# Altium schematic symbol library MCU_ST_STM32G4.SchLib: 165 symbols (part 1 of 4)
Pins are listed as number, name and electrical type; pins without a type are passive.

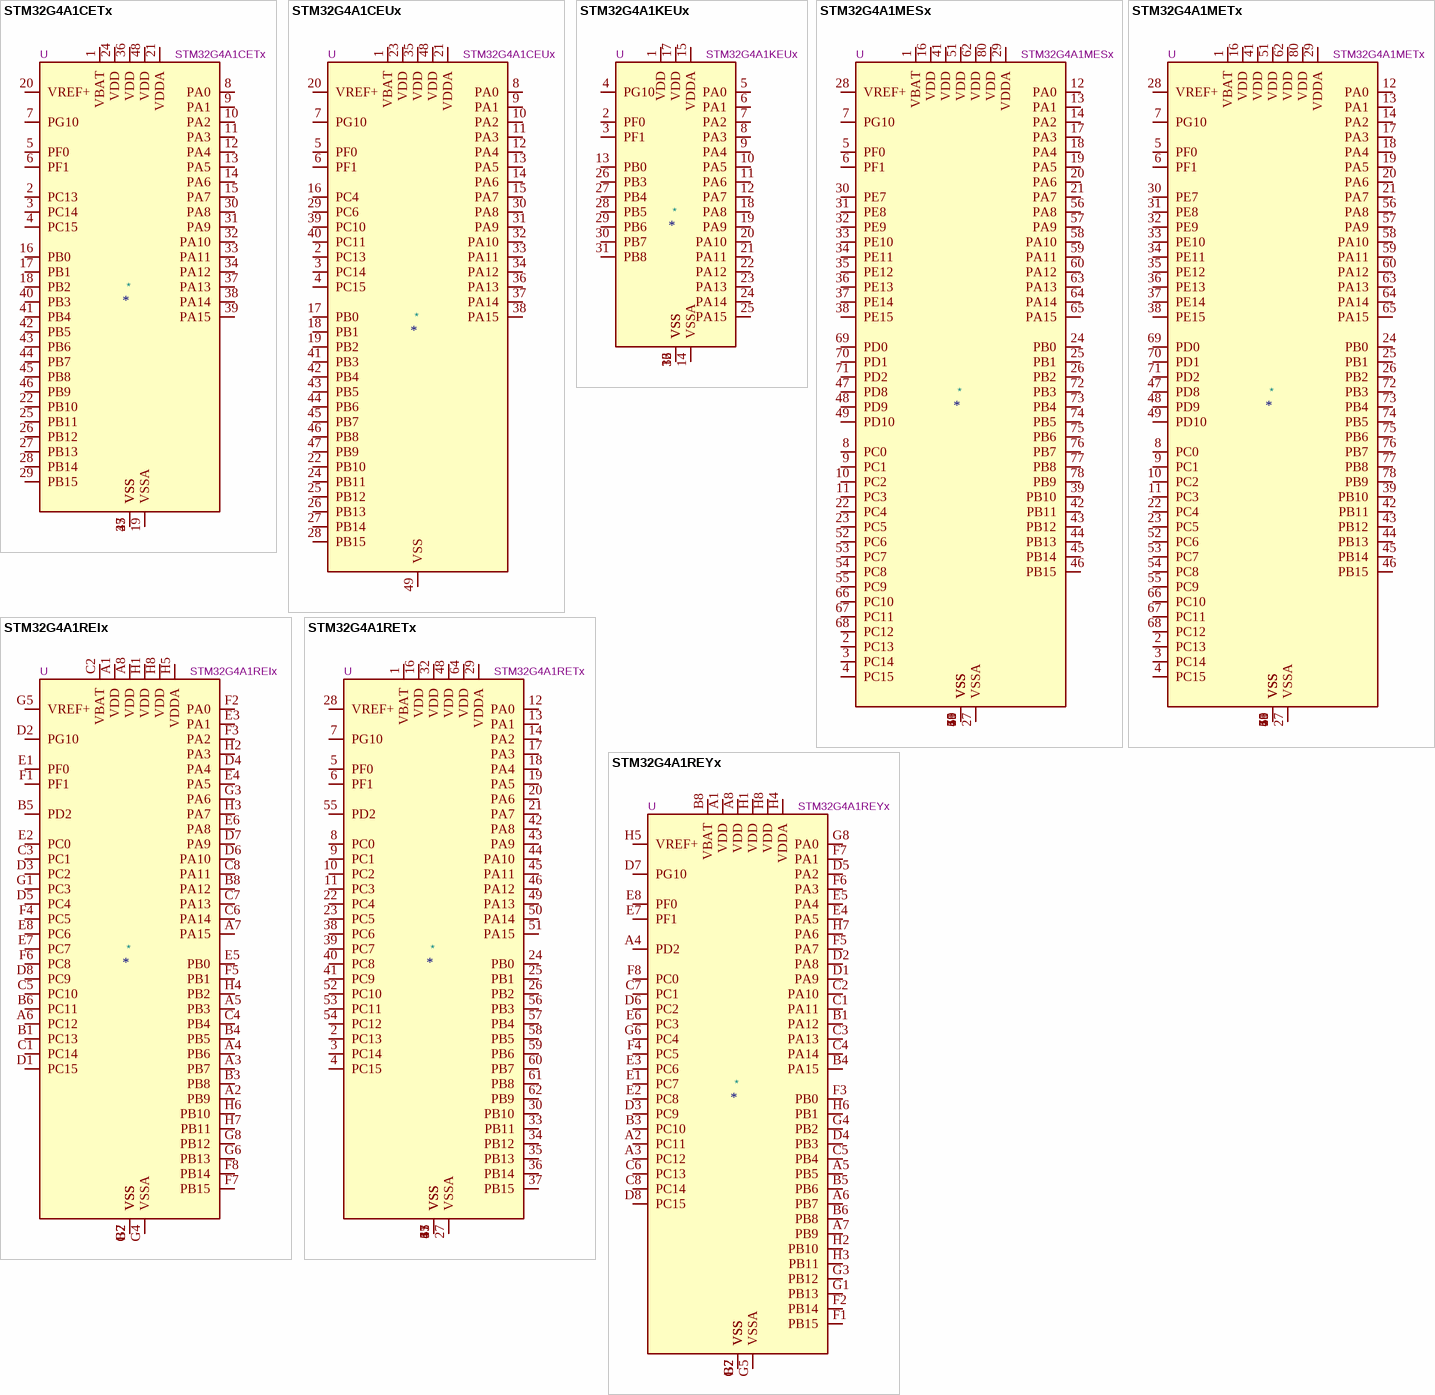
[diagram p0: symbols STM32G4A1CETx to STM32G4A1REYx]

## STM32G4A1CETx
designator *  value STM32G4A1CETx  Reference: U
STMicroelectronics Arm Cortex-M4 MCU, 512KB flash, 112KB RAM, 170 MHz, 1.71-3.6V, 38 GPIO, LQFP48; ki_keywords: Arm Cortex-M4 STM32G4 STM32G4x1; ki_fp_filters: LQFP*7x7mm*P0.5mm*; Footprint: Package_QFP:LQFP-48_7x7mm_P0.5mm; Datasheet: https://www.st.com/resource/en/datasheet/stm32g4a1ce.pdf; Description_: STMicroelectronics Arm Cortex-M4 MCU, 512KB flash, 112KB RAM, 170 MHz, 1.71-3.6V, 38 GPIO, LQFP48
pins: 1 VBAT, 2 PC13, 3 PC14, 4 PC15, 5 PF0, 6 PF1, 7 PG10, 8 PA0, 9 PA1, 10 PA2, 11 PA3, 12 PA4, 13 PA5, 14 PA6, 15 PA7, 16 PB0, 17 PB1, 18 PB2, 19 VSSA, 20 VREF+, 21 VDDA, 22 PB10, 23 VSS, 24 VDD, 25 PB11, 26 PB12, 27 PB13, 28 PB14, 29 PB15, 30 PA8, 31 PA9, 32 PA10, 33 PA11, 34 PA12, 35 VSS, 36 VDD, 37 PA13, 38 PA14, 39 PA15, 40 PB3, 41 PB4, 42 PB5, 43 PB6, 44 PB7, 45 PB8, 46 PB9, 47 VSS, 48 VDD

## STM32G4A1CEUx
designator *  value STM32G4A1CEUx  Reference: U
STMicroelectronics Arm Cortex-M4 MCU, 512KB flash, 112KB RAM, 170 MHz, 1.71-3.6V, 42 GPIO, UFQFPN48; ki_keywords: Arm Cortex-M4 STM32G4 STM32G4x1; ki_fp_filters: QFN*1EP*7x7mm*P0.5mm*; Footprint: Package_DFN_QFN:QFN-48-1EP_7x7mm_P0.5mm_EP5.6x5.6mm; Datasheet: https://www.st.com/resource/en/datasheet/stm32g4a1ce.pdf; Description_: STMicroelectronics Arm Cortex-M4 MCU, 512KB flash, 112KB RAM, 170 MHz, 1.71-3.6V, 42 GPIO, UFQFPN48
pins: 1 VBAT, 2 PC13, 3 PC14, 4 PC15, 5 PF0, 6 PF1, 7 PG10, 8 PA0, 9 PA1, 10 PA2, 11 PA3, 12 PA4, 13 PA5, 14 PA6, 15 PA7, 16 PC4, 17 PB0, 18 PB1, 19 PB2, 20 VREF+, 21 VDDA, 22 PB10, 23 VDD, 24 PB11, 25 PB12, 26 PB13, 27 PB14, 28 PB15, 29 PC6, 30 PA8, 31 PA9, 32 PA10, 33 PA11, 34 PA12, 35 VDD, 36 PA13, 37 PA14, 38 PA15, 39 PC10, 40 PC11, 41 PB3, 42 PB4, 43 PB5, 44 PB6, 45 PB7, 46 PB8, 47 PB9, 48 VDD, 49 VSS

## STM32G4A1KEUx
designator *  value STM32G4A1KEUx  Reference: U
STMicroelectronics Arm Cortex-M4 MCU, 512KB flash, 112KB RAM, 170 MHz, 1.71-3.6V, 26 GPIO, UFQFPN32; ki_keywords: Arm Cortex-M4 STM32G4 STM32G4x1; ki_fp_filters: QFN*1EP*5x5mm*P0.5mm*; Footprint: Package_DFN_QFN:QFN-32-1EP_5x5mm_P0.5mm_EP3.45x3.45mm; Datasheet: https://www.st.com/resource/en/datasheet/stm32g4a1ke.pdf; Description_: STMicroelectronics Arm Cortex-M4 MCU, 512KB flash, 112KB RAM, 170 MHz, 1.71-3.6V, 26 GPIO, UFQFPN32
pins: 1 VDD, 2 PF0, 3 PF1, 4 PG10, 5 PA0, 6 PA1, 7 PA2, 8 PA3, 9 PA4, 10 PA5, 11 PA6, 12 PA7, 13 PB0, 14 VSSA, 15 VDDA, 16 VSS, 17 VDD, 18 PA8, 19 PA9, 20 PA10, 21 PA11, 22 PA12, 23 PA13, 24 PA14, 25 PA15, 26 PB3, 27 PB4, 28 PB5, 29 PB6, 30 PB7, 31 PB8, 32 VSS, 33 VSS

## STM32G4A1MESx
designator *  value STM32G4A1MESx  Reference: U
STMicroelectronics Arm Cortex-M4 MCU, 512KB flash, 112KB RAM, 170 MHz, 1.71-3.6V, 66 GPIO, LQFP80; ki_keywords: Arm Cortex-M4 STM32G4 STM32G4x1; ki_fp_filters: LQFP*14x14mm*P0.65mm*; Footprint: Package_QFP:LQFP-80_14x14mm_P0.65mm; Datasheet: https://www.st.com/resource/en/datasheet/stm32g4a1me.pdf; Description_: STMicroelectronics Arm Cortex-M4 MCU, 512KB flash, 112KB RAM, 170 MHz, 1.71-3.6V, 66 GPIO, LQFP80
pins: 1 VBAT, 2 PC13, 3 PC14, 4 PC15, 5 PF0, 6 PF1, 7 PG10, 8 PC0, 9 PC1, 10 PC2, 11 PC3, 12 PA0, 13 PA1, 14 PA2, 15 VSS, 16 VDD, 17 PA3, 18 PA4, 19 PA5, 20 PA6, 21 PA7, 22 PC4, 23 PC5, 24 PB0, 25 PB1, 26 PB2, 27 VSSA, 28 VREF+, 29 VDDA, 30 PE7, 31 PE8, 32 PE9, 33 PE10, 34 PE11, 35 PE12, 36 PE13, 37 PE14, 38 PE15, 39 PB10, 40 VSS, 41 VDD, 42 PB11, 43 PB12, 44 PB13, 45 PB14, 46 PB15, 47 PD8, 48 PD9, 49 PD10, 50 VSS, 51 VDD, 52 PC6, 53 PC7, 54 PC8, 55 PC9, 56 PA8, 57 PA9, 58 PA10, 59 PA11, 60 PA12, 61 VSS, 62 VDD, 63 PA13, 64 PA14, 65 PA15, 66 PC10, 67 PC11, 68 PC12, 69 PD0, 70 PD1, 71 PD2, 72 PB3, 73 PB4, 74 PB5, 75 PB6, 76 PB7, 77 PB8, 78 PB9, 79 VSS, 80 VDD

## STM32G4A1METx
designator *  value STM32G4A1METx  Reference: U
STMicroelectronics Arm Cortex-M4 MCU, 512KB flash, 112KB RAM, 170 MHz, 1.71-3.6V, 66 GPIO, LQFP80; ki_keywords: Arm Cortex-M4 STM32G4 STM32G4x1; ki_fp_filters: LQFP*12x12mm*P0.5mm*; Footprint: Package_QFP:LQFP-80_12x12mm_P0.5mm; Datasheet: https://www.st.com/resource/en/datasheet/stm32g4a1me.pdf; Description_: STMicroelectronics Arm Cortex-M4 MCU, 512KB flash, 112KB RAM, 170 MHz, 1.71-3.6V, 66 GPIO, LQFP80
pins: 1 VBAT, 2 PC13, 3 PC14, 4 PC15, 5 PF0, 6 PF1, 7 PG10, 8 PC0, 9 PC1, 10 PC2, 11 PC3, 12 PA0, 13 PA1, 14 PA2, 15 VSS, 16 VDD, 17 PA3, 18 PA4, 19 PA5, 20 PA6, 21 PA7, 22 PC4, 23 PC5, 24 PB0, 25 PB1, 26 PB2, 27 VSSA, 28 VREF+, 29 VDDA, 30 PE7, 31 PE8, 32 PE9, 33 PE10, 34 PE11, 35 PE12, 36 PE13, 37 PE14, 38 PE15, 39 PB10, 40 VSS, 41 VDD, 42 PB11, 43 PB12, 44 PB13, 45 PB14, 46 PB15, 47 PD8, 48 PD9, 49 PD10, 50 VSS, 51 VDD, 52 PC6, 53 PC7, 54 PC8, 55 PC9, 56 PA8, 57 PA9, 58 PA10, 59 PA11, 60 PA12, 61 VSS, 62 VDD, 63 PA13, 64 PA14, 65 PA15, 66 PC10, 67 PC11, 68 PC12, 69 PD0, 70 PD1, 71 PD2, 72 PB3, 73 PB4, 74 PB5, 75 PB6, 76 PB7, 77 PB8, 78 PB9, 79 VSS, 80 VDD

## STM32G4A1REIx
designator *  value STM32G4A1REIx  Reference: U
STMicroelectronics Arm Cortex-M4 MCU, 512KB flash, 112KB RAM, 170 MHz, 1.71-3.6V, 52 GPIO, UFBGA64; ki_keywords: Arm Cortex-M4 STM32G4 STM32G4x1; ki_fp_filters: UFBGA*5x5mm*Layout8x8*P0.5mm*; Footprint: Package_BGA:UFBGA-64_5x5mm_Layout8x8_P0.5mm; Datasheet: https://www.st.com/resource/en/datasheet/stm32g4a1re.pdf; Description_: STMicroelectronics Arm Cortex-M4 MCU, 512KB flash, 112KB RAM, 170 MHz, 1.71-3.6V, 52 GPIO, UFBGA64
pins: A1 VDD, A2 PB9, A3 PB7, A4 PB6, A5 PB3, A6 PC12, A7 PA15, A8 VDD, B1 PC13, B2 VSS, B3 PB8, B4 PB5, B5 PD2, B6 PC11, B7 VSS, B8 PA12, C1 PC14, C2 VBAT, C3 PC1, C4 PB4, C5 PC10, C6 PA14, C7 PA13, C8 PA11, D1 PC15, D2 PG10, D3 PC2, D4 PA4, D5 PC4, D6 PA10, D7 PA9, D8 PC9, E1 PF0, E2 PC0, E3 PA1, E4 PA5, E5 PB0, E6 PA8, E7 PC7, E8 PC6, F1 PF1, F2 PA0, F3 PA2, F4 PC5, F5 PB1, F6 PC8, F7 PB15, F8 PB14, G1 PC3, G2 VSS, G3 PA6, G4 VSSA, G5 VREF+, G6 PB13, G7 VSS, G8 PB12, H1 VDD, H2 PA3, H3 PA7, H4 PB2, H5 VDDA, H6 PB10, H7 PB11, H8 VDD

## STM32G4A1RETx
designator *  value STM32G4A1RETx  Reference: U
STMicroelectronics Arm Cortex-M4 MCU, 512KB flash, 112KB RAM, 170 MHz, 1.71-3.6V, 52 GPIO, LQFP64; ki_keywords: Arm Cortex-M4 STM32G4 STM32G4x1; ki_fp_filters: LQFP*10x10mm*P0.5mm*; Footprint: Package_QFP:LQFP-64_10x10mm_P0.5mm; Datasheet: https://www.st.com/resource/en/datasheet/stm32g4a1re.pdf; Description_: STMicroelectronics Arm Cortex-M4 MCU, 512KB flash, 112KB RAM, 170 MHz, 1.71-3.6V, 52 GPIO, LQFP64
pins: 1 VBAT, 2 PC13, 3 PC14, 4 PC15, 5 PF0, 6 PF1, 7 PG10, 8 PC0, 9 PC1, 10 PC2, 11 PC3, 12 PA0, 13 PA1, 14 PA2, 15 VSS, 16 VDD, 17 PA3, 18 PA4, 19 PA5, 20 PA6, 21 PA7, 22 PC4, 23 PC5, 24 PB0, 25 PB1, 26 PB2, 27 VSSA, 28 VREF+, 29 VDDA, 30 PB10, 31 VSS, 32 VDD, 33 PB11, 34 PB12, 35 PB13, 36 PB14, 37 PB15, 38 PC6, 39 PC7, 40 PC8, 41 PC9, 42 PA8, 43 PA9, 44 PA10, 45 PA11, 46 PA12, 47 VSS, 48 VDD, 49 PA13, 50 PA14, 51 PA15, 52 PC10, 53 PC11, 54 PC12, 55 PD2, 56 PB3, 57 PB4, 58 PB5, 59 PB6, 60 PB7, 61 PB8, 62 PB9, 63 VSS, 64 VDD

## STM32G4A1REYx
designator *  value STM32G4A1REYx  Reference: U
STMicroelectronics Arm Cortex-M4 MCU, 512KB flash, 112KB RAM, 170 MHz, 1.71-3.6V, 52 GPIO, WLCSP64; ki_keywords: Arm Cortex-M4 STM32G4 STM32G4x1; ki_fp_filters: ST*WLCSP*3.56x3.52mm*Layout8x8*P0.4mm*; Footprint: Package_CSP:ST_WLCSP-64_3.56x3.52mm_Layout8x8_P0.4mm; Datasheet: https://www.st.com/resource/en/datasheet/stm32g4a1re.pdf; Description_: STMicroelectronics Arm Cortex-M4 MCU, 512KB flash, 112KB RAM, 170 MHz, 1.71-3.6V, 52 GPIO, WLCSP64
pins: A1 VDD, A2 PC11, A3 PC12, A4 PD2, A5 PB5, A6 PB7, A7 PB9, A8 VDD, B1 PA12, B2 VSS, B3 PC10, B4 PA15, B5 PB6, B6 PB8, B7 VSS, B8 VBAT, C1 PA11, C2 PA10, C3 PA13, C4 PA14, C5 PB4, C6 PC13, C7 PC1, C8 PC14, D1 PA9, D2 PA8, D3 PC9, D4 PB3, D5 PA2, D6 PC2, D7 PG10, D8 PC15, E1 PC7, E2 PC8, E3 PC6, E4 PA5, E5 PA4, E6 PC3, E7 PF1, E8 PF0, F1 PB15, F2 PB14, F3 PB0, F4 PC5, F5 PA7, F6 PA3, F7 PA1, F8 PC0, G1 PB13, G2 VSS, G3 PB12, G4 PB2, G5 VSSA, G6 PC4, G7 VSS, G8 PA0, H1 VDD, H2 PB10, H3 PB11, H4 VDDA, H5 VREF+, H6 PB1, H7 PA6, H8 VDD

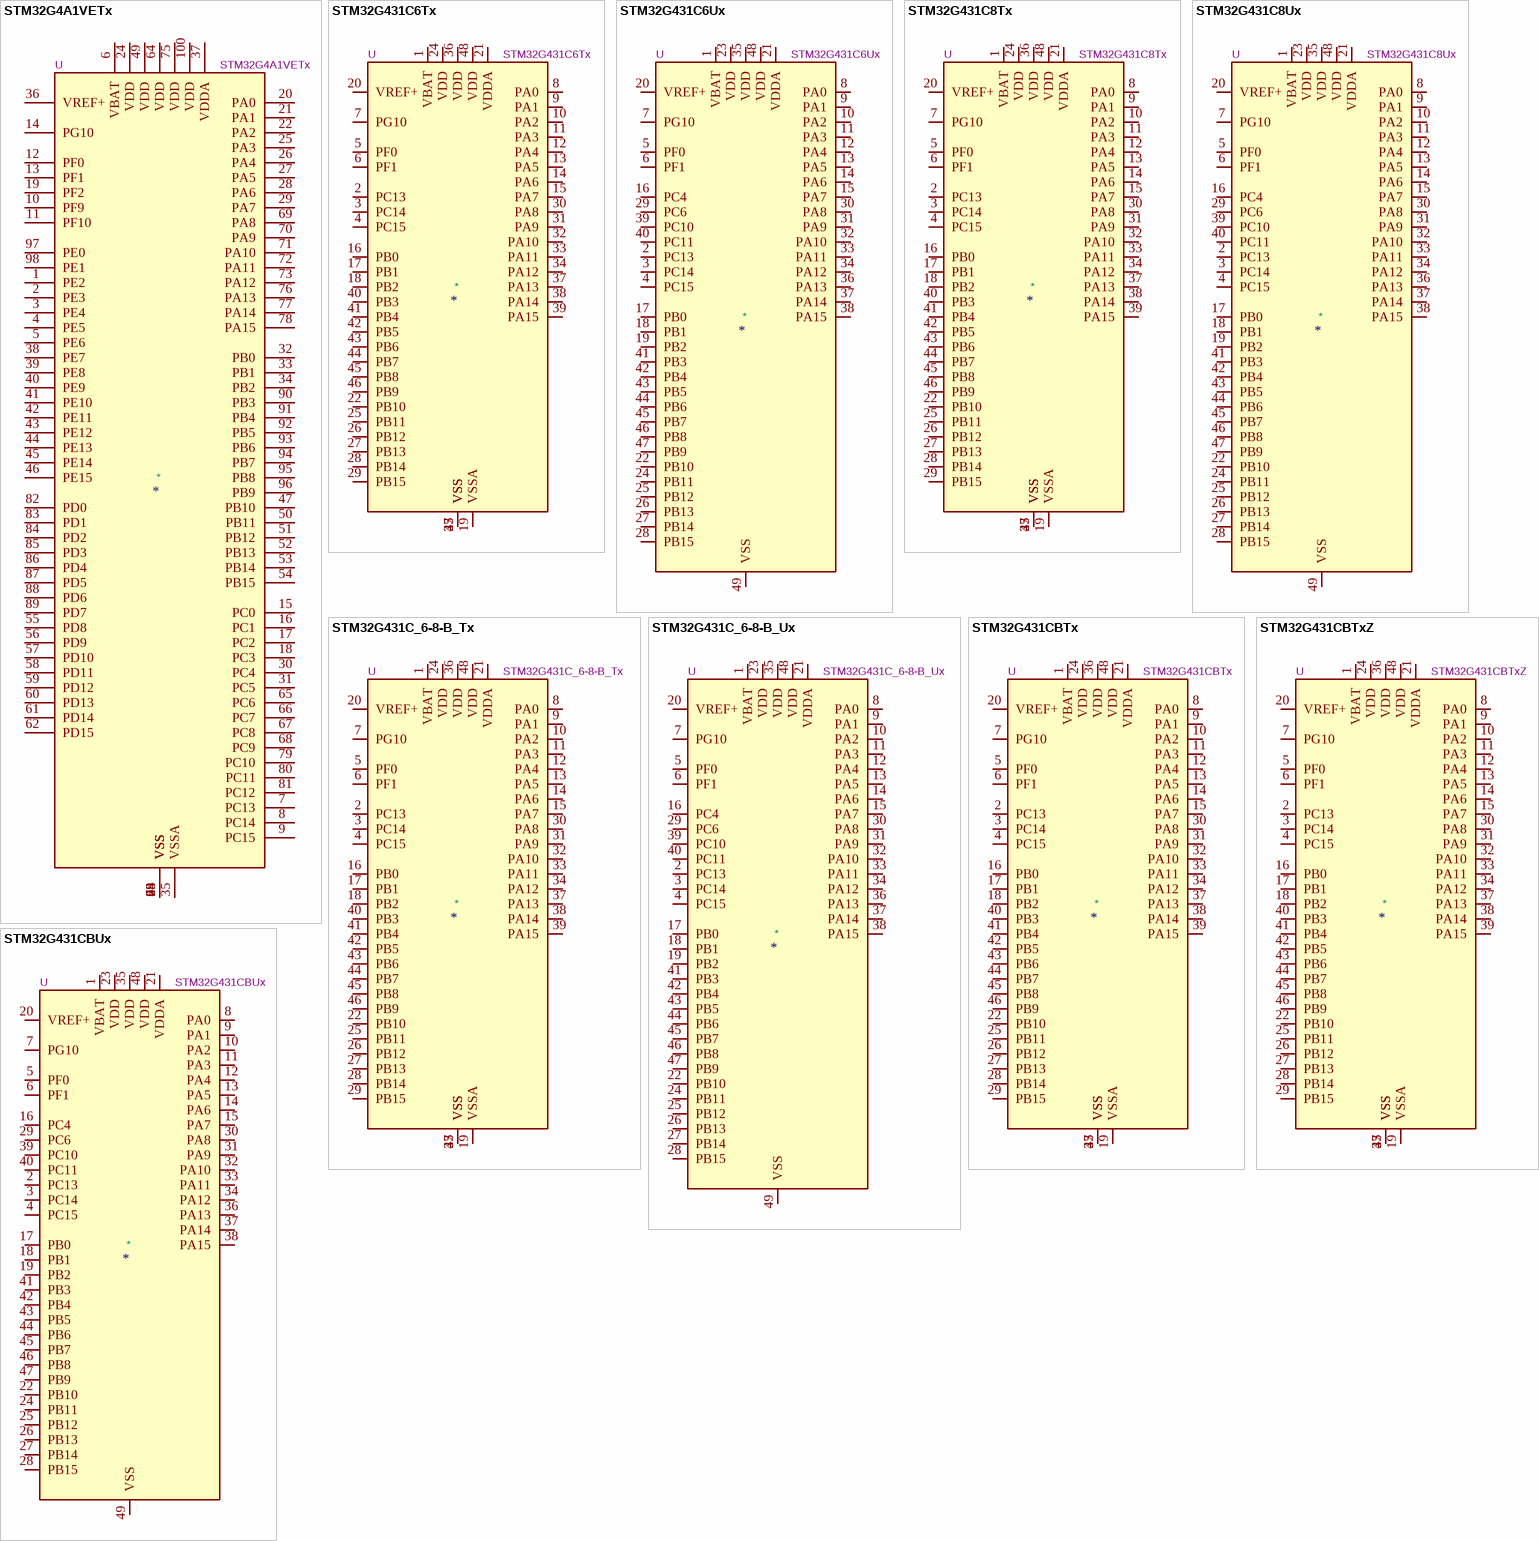
[diagram p1: symbols STM32G4A1VETx to STM32G431CBUx]

## STM32G4A1VETx
designator *  value STM32G4A1VETx  Reference: U
STMicroelectronics Arm Cortex-M4 MCU, 512KB flash, 112KB RAM, 170 MHz, 1.71-3.6V, 86 GPIO, LQFP100; ki_keywords: Arm Cortex-M4 STM32G4 STM32G4x1; ki_fp_filters: LQFP*14x14mm*P0.5mm*; Footprint: Package_QFP:LQFP-100_14x14mm_P0.5mm; Datasheet: https://www.st.com/resource/en/datasheet/stm32g4a1ve.pdf; Description_: STMicroelectronics Arm Cortex-M4 MCU, 512KB flash, 112KB RAM, 170 MHz, 1.71-3.6V, 86 GPIO, LQFP100
pins: 1 PE2, 2 PE3, 3 PE4, 4 PE5, 5 PE6, 6 VBAT, 7 PC13, 8 PC14, 9 PC15, 10 PF9, 11 PF10, 12 PF0, 13 PF1, 14 PG10, 15 PC0, 16 PC1, 17 PC2, 18 PC3, 19 PF2, 20 PA0, 21 PA1, 22 PA2, 23 VSS, 24 VDD, 25 PA3, 26 PA4, 27 PA5, 28 PA6, 29 PA7, 30 PC4, 31 PC5, 32 PB0, 33 PB1, 34 PB2, 35 VSSA, 36 VREF+, 37 VDDA, 38 PE7, 39 PE8, 40 PE9, 41 PE10, 42 PE11, 43 PE12, 44 PE13, 45 PE14, 46 PE15, 47 PB10, 48 VSS, 49 VDD, 50 PB11, 51 PB12, 52 PB13, 53 PB14, 54 PB15, 55 PD8, 56 PD9, 57 PD10, 58 PD11, 59 PD12, 60 PD13, 61 PD14, 62 PD15, 63 VSS, 64 VDD, 65 PC6, 66 PC7, 67 PC8, 68 PC9, 69 PA8, 70 PA9, 71 PA10, 72 PA11, 73 PA12, 74 VSS, 75 VDD, 76 PA13, 77 PA14, 78 PA15, 79 PC10, 80 PC11, 81 PC12, 82 PD0, 83 PD1, 84 PD2, 85 PD3, 86 PD4, 87 PD5, 88 PD6, 89 PD7, 90 PB3, 91 PB4, 92 PB5, 93 PB6, 94 PB7, 95 PB8, 96 PB9, 97 PE0, 98 PE1, 99 VSS, 100 VDD

## STM32G431C6Tx
designator *  value STM32G431C6Tx  Reference: U
STMicroelectronics Arm Cortex-M4 MCU, 32KB flash, 32KB RAM, 170 MHz, 1.71-3.6V, 38 GPIO, LQFP48; ki_keywords: Arm Cortex-M4 STM32G4 STM32G4x1; ki_fp_filters: LQFP*7x7mm*P0.5mm*; Footprint: Package_QFP:LQFP-48_7x7mm_P0.5mm; Datasheet: https://www.st.com/resource/en/datasheet/stm32g431c6.pdf; Description_: STMicroelectronics Arm Cortex-M4 MCU, 32KB flash, 32KB RAM, 170 MHz, 1.71-3.6V, 38 GPIO, LQFP48
pins: 1 VBAT, 2 PC13, 3 PC14, 4 PC15, 5 PF0, 6 PF1, 7 PG10, 8 PA0, 9 PA1, 10 PA2, 11 PA3, 12 PA4, 13 PA5, 14 PA6, 15 PA7, 16 PB0, 17 PB1, 18 PB2, 19 VSSA, 20 VREF+, 21 VDDA, 22 PB10, 23 VSS, 24 VDD, 25 PB11, 26 PB12, 27 PB13, 28 PB14, 29 PB15, 30 PA8, 31 PA9, 32 PA10, 33 PA11, 34 PA12, 35 VSS, 36 VDD, 37 PA13, 38 PA14, 39 PA15, 40 PB3, 41 PB4, 42 PB5, 43 PB6, 44 PB7, 45 PB8, 46 PB9, 47 VSS, 48 VDD

## STM32G431C6Ux
designator *  value STM32G431C6Ux  Reference: U
STMicroelectronics Arm Cortex-M4 MCU, 32KB flash, 32KB RAM, 170 MHz, 1.71-3.6V, 42 GPIO, UFQFPN48; ki_keywords: Arm Cortex-M4 STM32G4 STM32G4x1; ki_fp_filters: QFN*1EP*7x7mm*P0.5mm*; Footprint: Package_DFN_QFN:QFN-48-1EP_7x7mm_P0.5mm_EP5.6x5.6mm; Datasheet: https://www.st.com/resource/en/datasheet/stm32g431c6.pdf; Description_: STMicroelectronics Arm Cortex-M4 MCU, 32KB flash, 32KB RAM, 170 MHz, 1.71-3.6V, 42 GPIO, UFQFPN48
pins: 1 VBAT, 2 PC13, 3 PC14, 4 PC15, 5 PF0, 6 PF1, 7 PG10, 8 PA0, 9 PA1, 10 PA2, 11 PA3, 12 PA4, 13 PA5, 14 PA6, 15 PA7, 16 PC4, 17 PB0, 18 PB1, 19 PB2, 20 VREF+, 21 VDDA, 22 PB10, 23 VDD, 24 PB11, 25 PB12, 26 PB13, 27 PB14, 28 PB15, 29 PC6, 30 PA8, 31 PA9, 32 PA10, 33 PA11, 34 PA12, 35 VDD, 36 PA13, 37 PA14, 38 PA15, 39 PC10, 40 PC11, 41 PB3, 42 PB4, 43 PB5, 44 PB6, 45 PB7, 46 PB8, 47 PB9, 48 VDD, 49 VSS

## STM32G431C8Tx
designator *  value STM32G431C8Tx  Reference: U
STMicroelectronics Arm Cortex-M4 MCU, 64KB flash, 32KB RAM, 170 MHz, 1.71-3.6V, 38 GPIO, LQFP48; ki_keywords: Arm Cortex-M4 STM32G4 STM32G4x1; ki_fp_filters: LQFP*7x7mm*P0.5mm*; Footprint: Package_QFP:LQFP-48_7x7mm_P0.5mm; Datasheet: https://www.st.com/resource/en/datasheet/stm32g431c8.pdf; Description_: STMicroelectronics Arm Cortex-M4 MCU, 64KB flash, 32KB RAM, 170 MHz, 1.71-3.6V, 38 GPIO, LQFP48
pins: 1 VBAT, 2 PC13, 3 PC14, 4 PC15, 5 PF0, 6 PF1, 7 PG10, 8 PA0, 9 PA1, 10 PA2, 11 PA3, 12 PA4, 13 PA5, 14 PA6, 15 PA7, 16 PB0, 17 PB1, 18 PB2, 19 VSSA, 20 VREF+, 21 VDDA, 22 PB10, 23 VSS, 24 VDD, 25 PB11, 26 PB12, 27 PB13, 28 PB14, 29 PB15, 30 PA8, 31 PA9, 32 PA10, 33 PA11, 34 PA12, 35 VSS, 36 VDD, 37 PA13, 38 PA14, 39 PA15, 40 PB3, 41 PB4, 42 PB5, 43 PB6, 44 PB7, 45 PB8, 46 PB9, 47 VSS, 48 VDD

## STM32G431C8Ux
designator *  value STM32G431C8Ux  Reference: U
STMicroelectronics Arm Cortex-M4 MCU, 64KB flash, 32KB RAM, 170 MHz, 1.71-3.6V, 42 GPIO, UFQFPN48; ki_keywords: Arm Cortex-M4 STM32G4 STM32G4x1; ki_fp_filters: QFN*1EP*7x7mm*P0.5mm*; Footprint: Package_DFN_QFN:QFN-48-1EP_7x7mm_P0.5mm_EP5.6x5.6mm; Datasheet: https://www.st.com/resource/en/datasheet/stm32g431c8.pdf; Description_: STMicroelectronics Arm Cortex-M4 MCU, 64KB flash, 32KB RAM, 170 MHz, 1.71-3.6V, 42 GPIO, UFQFPN48
pins: 1 VBAT, 2 PC13, 3 PC14, 4 PC15, 5 PF0, 6 PF1, 7 PG10, 8 PA0, 9 PA1, 10 PA2, 11 PA3, 12 PA4, 13 PA5, 14 PA6, 15 PA7, 16 PC4, 17 PB0, 18 PB1, 19 PB2, 20 VREF+, 21 VDDA, 22 PB10, 23 VDD, 24 PB11, 25 PB12, 26 PB13, 27 PB14, 28 PB15, 29 PC6, 30 PA8, 31 PA9, 32 PA10, 33 PA11, 34 PA12, 35 VDD, 36 PA13, 37 PA14, 38 PA15, 39 PC10, 40 PC11, 41 PB3, 42 PB4, 43 PB5, 44 PB6, 45 PB7, 46 PB8, 47 PB9, 48 VDD, 49 VSS

## STM32G431C_6-8-B_Tx
designator *  value STM32G431C_6-8-B_Tx  Reference: U
STMicroelectronics Arm Cortex-M4 MCU, 32-128KB flash, 32KB RAM, 170 MHz, 1.71-3.6V, 38 GPIO, LQFP48; ki_keywords: Arm Cortex-M4 STM32G4 STM32G4x1; ki_fp_filters: LQFP*7x7mm*P0.5mm*; Footprint: Package_QFP:LQFP-48_7x7mm_P0.5mm; Datasheet: https://www.st.com/resource/en/datasheet/stm32g431c6.pdf; Description_: STMicroelectronics Arm Cortex-M4 MCU, 32-128KB flash, 32KB RAM, 170 MHz, 1.71-3.6V, 38 GPIO, LQFP48
pins: 1 VBAT, 2 PC13, 3 PC14, 4 PC15, 5 PF0, 6 PF1, 7 PG10, 8 PA0, 9 PA1, 10 PA2, 11 PA3, 12 PA4, 13 PA5, 14 PA6, 15 PA7, 16 PB0, 17 PB1, 18 PB2, 19 VSSA, 20 VREF+, 21 VDDA, 22 PB10, 23 VSS, 24 VDD, 25 PB11, 26 PB12, 27 PB13, 28 PB14, 29 PB15, 30 PA8, 31 PA9, 32 PA10, 33 PA11, 34 PA12, 35 VSS, 36 VDD, 37 PA13, 38 PA14, 39 PA15, 40 PB3, 41 PB4, 42 PB5, 43 PB6, 44 PB7, 45 PB8, 46 PB9, 47 VSS, 48 VDD

## STM32G431C_6-8-B_Ux
designator *  value STM32G431C_6-8-B_Ux  Reference: U
STMicroelectronics Arm Cortex-M4 MCU, 32-128KB flash, 32KB RAM, 170 MHz, 1.71-3.6V, 42 GPIO, UFQFPN48; ki_keywords: Arm Cortex-M4 STM32G4 STM32G4x1; ki_fp_filters: QFN*1EP*7x7mm*P0.5mm*; Footprint: Package_DFN_QFN:QFN-48-1EP_7x7mm_P0.5mm_EP5.6x5.6mm; Datasheet: https://www.st.com/resource/en/datasheet/stm32g431c6.pdf; Description_: STMicroelectronics Arm Cortex-M4 MCU, 32-128KB flash, 32KB RAM, 170 MHz, 1.71-3.6V, 42 GPIO, UFQFPN48
pins: 1 VBAT, 2 PC13, 3 PC14, 4 PC15, 5 PF0, 6 PF1, 7 PG10, 8 PA0, 9 PA1, 10 PA2, 11 PA3, 12 PA4, 13 PA5, 14 PA6, 15 PA7, 16 PC4, 17 PB0, 18 PB1, 19 PB2, 20 VREF+, 21 VDDA, 22 PB10, 23 VDD, 24 PB11, 25 PB12, 26 PB13, 27 PB14, 28 PB15, 29 PC6, 30 PA8, 31 PA9, 32 PA10, 33 PA11, 34 PA12, 35 VDD, 36 PA13, 37 PA14, 38 PA15, 39 PC10, 40 PC11, 41 PB3, 42 PB4, 43 PB5, 44 PB6, 45 PB7, 46 PB8, 47 PB9, 48 VDD, 49 VSS

## STM32G431CBTx
designator *  value STM32G431CBTx  Reference: U
STMicroelectronics Arm Cortex-M4 MCU, 128KB flash, 32KB RAM, 170 MHz, 1.71-3.6V, 38 GPIO, LQFP48; ki_keywords: Arm Cortex-M4 STM32G4 STM32G4x1; ki_fp_filters: LQFP*7x7mm*P0.5mm*; Footprint: Package_QFP:LQFP-48_7x7mm_P0.5mm; Datasheet: https://www.st.com/resource/en/datasheet/stm32g431cb.pdf; Description_: STMicroelectronics Arm Cortex-M4 MCU, 128KB flash, 32KB RAM, 170 MHz, 1.71-3.6V, 38 GPIO, LQFP48
pins: 1 VBAT, 2 PC13, 3 PC14, 4 PC15, 5 PF0, 6 PF1, 7 PG10, 8 PA0, 9 PA1, 10 PA2, 11 PA3, 12 PA4, 13 PA5, 14 PA6, 15 PA7, 16 PB0, 17 PB1, 18 PB2, 19 VSSA, 20 VREF+, 21 VDDA, 22 PB10, 23 VSS, 24 VDD, 25 PB11, 26 PB12, 27 PB13, 28 PB14, 29 PB15, 30 PA8, 31 PA9, 32 PA10, 33 PA11, 34 PA12, 35 VSS, 36 VDD, 37 PA13, 38 PA14, 39 PA15, 40 PB3, 41 PB4, 42 PB5, 43 PB6, 44 PB7, 45 PB8, 46 PB9, 47 VSS, 48 VDD

## STM32G431CBTxZ
designator *  value STM32G431CBTxZ  Reference: U
STMicroelectronics Arm Cortex-M4 MCU, 128KB flash, 32KB RAM, 170 MHz, 1.71-3.6V, 38 GPIO, LQFP48; ki_keywords: Arm Cortex-M4 STM32G4 STM32G4x1; ki_fp_filters: LQFP*7x7mm*P0.5mm*; Footprint: Package_QFP:LQFP-48_7x7mm_P0.5mm; Datasheet: https://www.st.com/resource/en/datasheet/stm32g431cb.pdf; Description_: STMicroelectronics Arm Cortex-M4 MCU, 128KB flash, 32KB RAM, 170 MHz, 1.71-3.6V, 38 GPIO, LQFP48
pins: 1 VBAT, 2 PC13, 3 PC14, 4 PC15, 5 PF0, 6 PF1, 7 PG10, 8 PA0, 9 PA1, 10 PA2, 11 PA3, 12 PA4, 13 PA5, 14 PA6, 15 PA7, 16 PB0, 17 PB1, 18 PB2, 19 VSSA, 20 VREF+, 21 VDDA, 22 PB10, 23 VSS, 24 VDD, 25 PB11, 26 PB12, 27 PB13, 28 PB14, 29 PB15, 30 PA8, 31 PA9, 32 PA10, 33 PA11, 34 PA12, 35 VSS, 36 VDD, 37 PA13, 38 PA14, 39 PA15, 40 PB3, 41 PB4, 42 PB5, 43 PB6, 44 PB7, 45 PB8, 46 PB9, 47 VSS, 48 VDD

## STM32G431CBUx
designator *  value STM32G431CBUx  Reference: U
STMicroelectronics Arm Cortex-M4 MCU, 128KB flash, 32KB RAM, 170 MHz, 1.71-3.6V, 42 GPIO, UFQFPN48; ki_keywords: Arm Cortex-M4 STM32G4 STM32G4x1; ki_fp_filters: QFN*1EP*7x7mm*P0.5mm*; Footprint: Package_DFN_QFN:QFN-48-1EP_7x7mm_P0.5mm_EP5.6x5.6mm; Datasheet: https://www.st.com/resource/en/datasheet/stm32g431cb.pdf; Description_: STMicroelectronics Arm Cortex-M4 MCU, 128KB flash, 32KB RAM, 170 MHz, 1.71-3.6V, 42 GPIO, UFQFPN48
pins: 1 VBAT, 2 PC13, 3 PC14, 4 PC15, 5 PF0, 6 PF1, 7 PG10, 8 PA0, 9 PA1, 10 PA2, 11 PA3, 12 PA4, 13 PA5, 14 PA6, 15 PA7, 16 PC4, 17 PB0, 18 PB1, 19 PB2, 20 VREF+, 21 VDDA, 22 PB10, 23 VDD, 24 PB11, 25 PB12, 26 PB13, 27 PB14, 28 PB15, 29 PC6, 30 PA8, 31 PA9, 32 PA10, 33 PA11, 34 PA12, 35 VDD, 36 PA13, 37 PA14, 38 PA15, 39 PC10, 40 PC11, 41 PB3, 42 PB4, 43 PB5, 44 PB6, 45 PB7, 46 PB8, 47 PB9, 48 VDD, 49 VSS

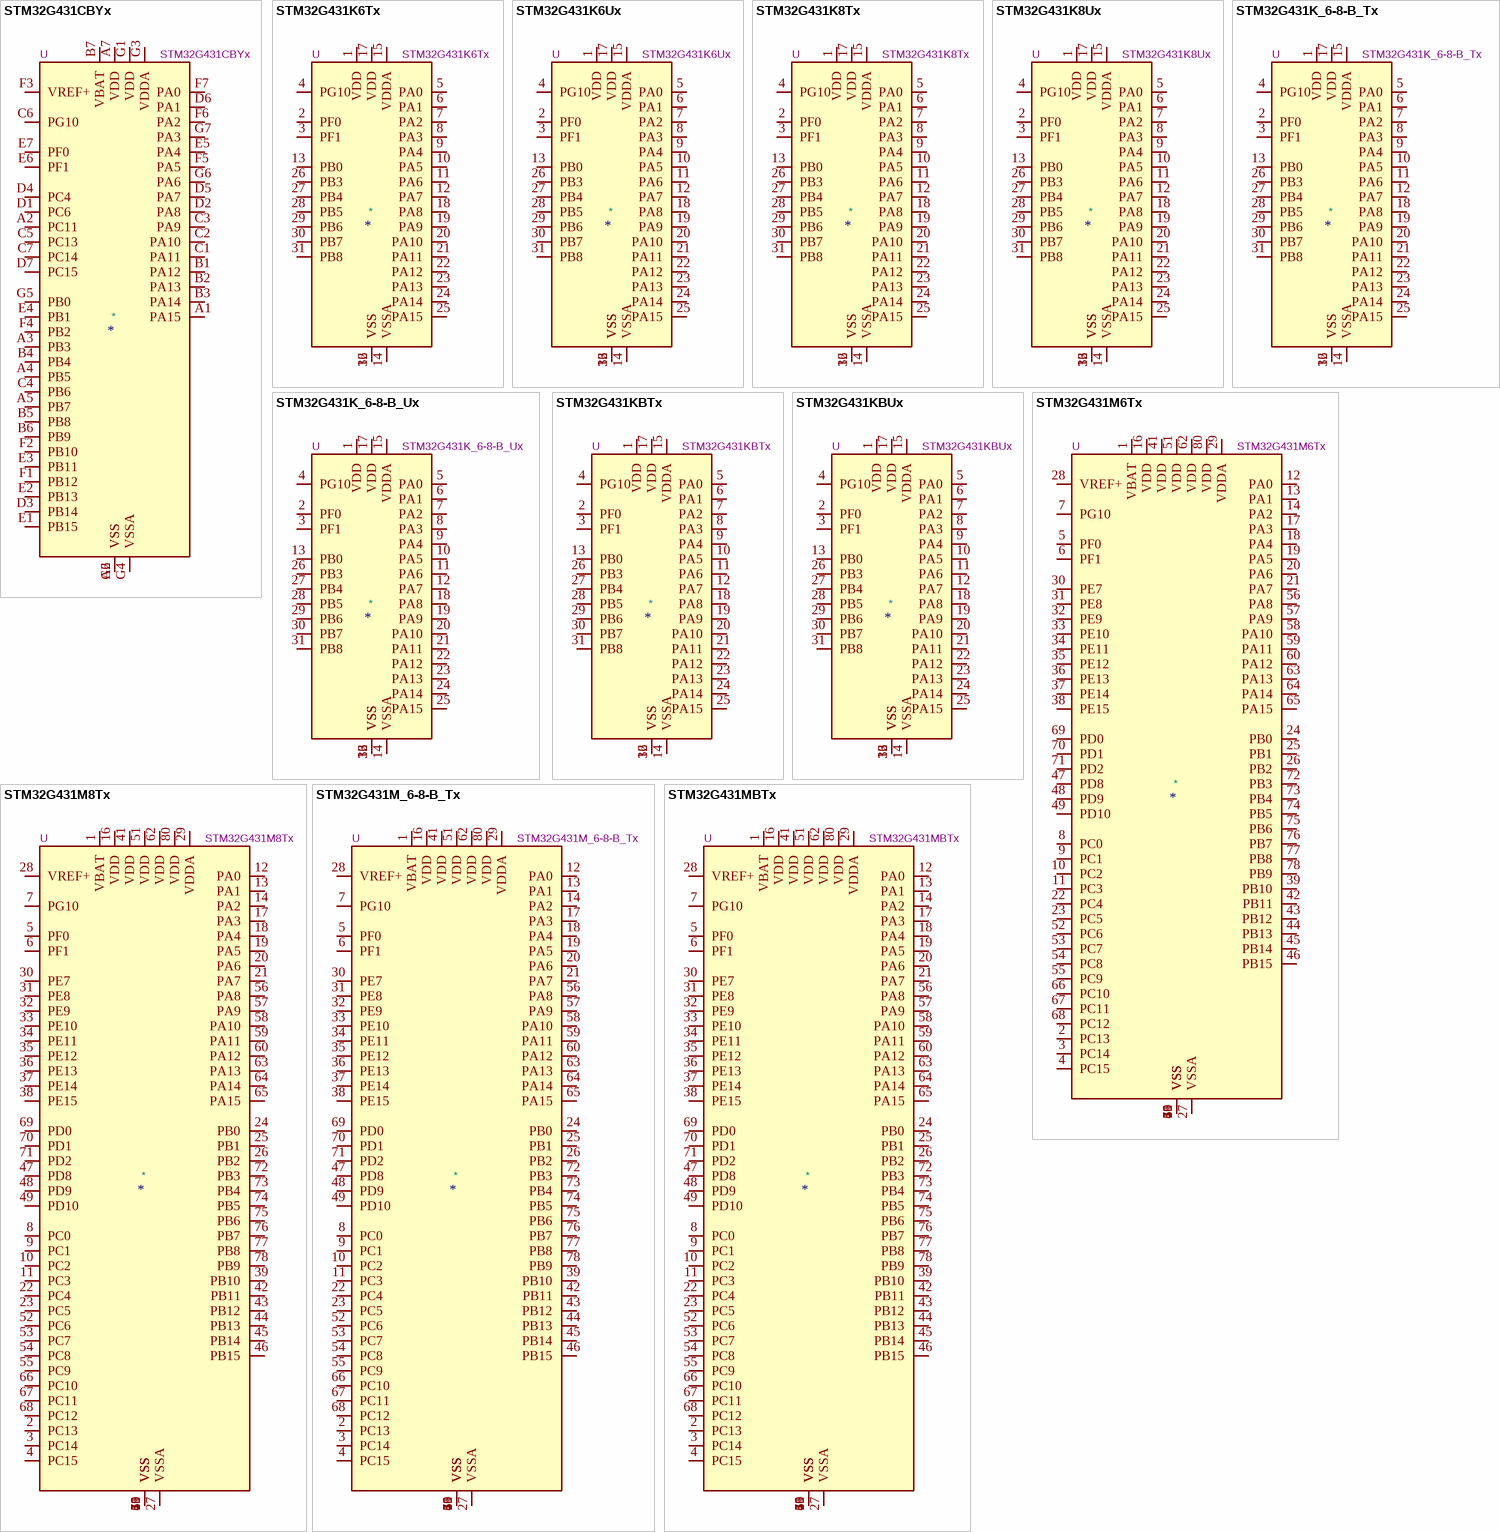
[diagram p2: symbols STM32G431CBYx to STM32G431MBTx]

## STM32G431CBYx
designator *  value STM32G431CBYx  Reference: U
STMicroelectronics Arm Cortex-M4 MCU, 128KB flash, 32KB RAM, 170 MHz, 1.71-3.6V, 41 GPIO, WLCSP49; ki_keywords: Arm Cortex-M4 STM32G4 STM32G4x1; ki_fp_filters: ST*WLCSP*3.15x3.13mm*Layout7x7*P0.4mm*; Footprint: Package_CSP:ST_WLCSP-49_3.15x3.13mm_Layout7x7_P0.4mm; Datasheet: https://www.st.com/resource/en/datasheet/stm32g431cb.pdf; Description_: STMicroelectronics Arm Cortex-M4 MCU, 128KB flash, 32KB RAM, 170 MHz, 1.71-3.6V, 41 GPIO, WLCSP49
pins: A1 PA15, A2 PC11, A3 PB3, A4 PB5, A5 PB7, A6 VSS, A7 VDD, B1 PA12, B2 PA13, B3 PA14, B4 PB4, B5 PB8, B6 PB9, B7 VBAT, C1 PA11, C2 PA10, C3 PA9, C4 PB6, C5 PC13, C6 PG10, C7 PC14, D1 PC6, D2 PA8, D3 PB14, D4 PC4, D5 PA7, D6 PA1, D7 PC15, E1 PB15, E2 PB13, E3 PB11, E4 PB1, E5 PA4, E6 PF1, E7 PF0, F1 PB12, F2 PB10, F3 VREF+, F4 PB2, F5 PA5, F6 PA2, F7 PA0, G1 VDD, G2 VSS, G3 VDDA, G4 VSSA, G5 PB0, G6 PA6, G7 PA3

## STM32G431K6Tx
designator *  value STM32G431K6Tx  Reference: U
STMicroelectronics Arm Cortex-M4 MCU, 32KB flash, 32KB RAM, 170 MHz, 1.71-3.6V, 26 GPIO, LQFP32; ki_keywords: Arm Cortex-M4 STM32G4 STM32G4x1; ki_fp_filters: LQFP*7x7mm*P0.8mm*; Footprint: Package_QFP:LQFP-32_7x7mm_P0.8mm; Datasheet: https://www.st.com/resource/en/datasheet/stm32g431k6.pdf; Description_: STMicroelectronics Arm Cortex-M4 MCU, 32KB flash, 32KB RAM, 170 MHz, 1.71-3.6V, 26 GPIO, LQFP32
pins: 1 VDD, 2 PF0, 3 PF1, 4 PG10, 5 PA0, 6 PA1, 7 PA2, 8 PA3, 9 PA4, 10 PA5, 11 PA6, 12 PA7, 13 PB0, 14 VSSA, 15 VDDA, 16 VSS, 17 VDD, 18 PA8, 19 PA9, 20 PA10, 21 PA11, 22 PA12, 23 PA13, 24 PA14, 25 PA15, 26 PB3, 27 PB4, 28 PB5, 29 PB6, 30 PB7, 31 PB8, 32 VSS

## STM32G431K6Ux
designator *  value STM32G431K6Ux  Reference: U
STMicroelectronics Arm Cortex-M4 MCU, 32KB flash, 32KB RAM, 170 MHz, 1.71-3.6V, 26 GPIO, UFQFPN32; ki_keywords: Arm Cortex-M4 STM32G4 STM32G4x1; ki_fp_filters: QFN*1EP*5x5mm*P0.5mm*; Footprint: Package_DFN_QFN:QFN-32-1EP_5x5mm_P0.5mm_EP3.45x3.45mm; Datasheet: https://www.st.com/resource/en/datasheet/stm32g431k6.pdf; Description_: STMicroelectronics Arm Cortex-M4 MCU, 32KB flash, 32KB RAM, 170 MHz, 1.71-3.6V, 26 GPIO, UFQFPN32
pins: 1 VDD, 2 PF0, 3 PF1, 4 PG10, 5 PA0, 6 PA1, 7 PA2, 8 PA3, 9 PA4, 10 PA5, 11 PA6, 12 PA7, 13 PB0, 14 VSSA, 15 VDDA, 16 VSS, 17 VDD, 18 PA8, 19 PA9, 20 PA10, 21 PA11, 22 PA12, 23 PA13, 24 PA14, 25 PA15, 26 PB3, 27 PB4, 28 PB5, 29 PB6, 30 PB7, 31 PB8, 32 VSS, 33 VSS

## STM32G431K8Tx
designator *  value STM32G431K8Tx  Reference: U
STMicroelectronics Arm Cortex-M4 MCU, 64KB flash, 32KB RAM, 170 MHz, 1.71-3.6V, 26 GPIO, LQFP32; ki_keywords: Arm Cortex-M4 STM32G4 STM32G4x1; ki_fp_filters: LQFP*7x7mm*P0.8mm*; Footprint: Package_QFP:LQFP-32_7x7mm_P0.8mm; Datasheet: https://www.st.com/resource/en/datasheet/stm32g431k8.pdf; Description_: STMicroelectronics Arm Cortex-M4 MCU, 64KB flash, 32KB RAM, 170 MHz, 1.71-3.6V, 26 GPIO, LQFP32
pins: 1 VDD, 2 PF0, 3 PF1, 4 PG10, 5 PA0, 6 PA1, 7 PA2, 8 PA3, 9 PA4, 10 PA5, 11 PA6, 12 PA7, 13 PB0, 14 VSSA, 15 VDDA, 16 VSS, 17 VDD, 18 PA8, 19 PA9, 20 PA10, 21 PA11, 22 PA12, 23 PA13, 24 PA14, 25 PA15, 26 PB3, 27 PB4, 28 PB5, 29 PB6, 30 PB7, 31 PB8, 32 VSS

## STM32G431K8Ux
designator *  value STM32G431K8Ux  Reference: U
STMicroelectronics Arm Cortex-M4 MCU, 64KB flash, 32KB RAM, 170 MHz, 1.71-3.6V, 26 GPIO, UFQFPN32; ki_keywords: Arm Cortex-M4 STM32G4 STM32G4x1; ki_fp_filters: QFN*1EP*5x5mm*P0.5mm*; Footprint: Package_DFN_QFN:QFN-32-1EP_5x5mm_P0.5mm_EP3.45x3.45mm; Datasheet: https://www.st.com/resource/en/datasheet/stm32g431k8.pdf; Description_: STMicroelectronics Arm Cortex-M4 MCU, 64KB flash, 32KB RAM, 170 MHz, 1.71-3.6V, 26 GPIO, UFQFPN32
pins: 1 VDD, 2 PF0, 3 PF1, 4 PG10, 5 PA0, 6 PA1, 7 PA2, 8 PA3, 9 PA4, 10 PA5, 11 PA6, 12 PA7, 13 PB0, 14 VSSA, 15 VDDA, 16 VSS, 17 VDD, 18 PA8, 19 PA9, 20 PA10, 21 PA11, 22 PA12, 23 PA13, 24 PA14, 25 PA15, 26 PB3, 27 PB4, 28 PB5, 29 PB6, 30 PB7, 31 PB8, 32 VSS, 33 VSS

## STM32G431K_6-8-B_Tx
designator *  value STM32G431K_6-8-B_Tx  Reference: U
STMicroelectronics Arm Cortex-M4 MCU, 32-128KB flash, 32KB RAM, 170 MHz, 1.71-3.6V, 26 GPIO, LQFP32; ki_keywords: Arm Cortex-M4 STM32G4 STM32G4x1; ki_fp_filters: LQFP*7x7mm*P0.8mm*; Footprint: Package_QFP:LQFP-32_7x7mm_P0.8mm; Datasheet: https://www.st.com/resource/en/datasheet/stm32g431k6.pdf; Description_: STMicroelectronics Arm Cortex-M4 MCU, 32-128KB flash, 32KB RAM, 170 MHz, 1.71-3.6V, 26 GPIO, LQFP32
pins: 1 VDD, 2 PF0, 3 PF1, 4 PG10, 5 PA0, 6 PA1, 7 PA2, 8 PA3, 9 PA4, 10 PA5, 11 PA6, 12 PA7, 13 PB0, 14 VSSA, 15 VDDA, 16 VSS, 17 VDD, 18 PA8, 19 PA9, 20 PA10, 21 PA11, 22 PA12, 23 PA13, 24 PA14, 25 PA15, 26 PB3, 27 PB4, 28 PB5, 29 PB6, 30 PB7, 31 PB8, 32 VSS

## STM32G431K_6-8-B_Ux
designator *  value STM32G431K_6-8-B_Ux  Reference: U
STMicroelectronics Arm Cortex-M4 MCU, 32-128KB flash, 32KB RAM, 170 MHz, 1.71-3.6V, 26 GPIO, UFQFPN32; ki_keywords: Arm Cortex-M4 STM32G4 STM32G4x1; ki_fp_filters: QFN*1EP*5x5mm*P0.5mm*; Footprint: Package_DFN_QFN:QFN-32-1EP_5x5mm_P0.5mm_EP3.45x3.45mm; Datasheet: https://www.st.com/resource/en/datasheet/stm32g431k6.pdf; Description_: STMicroelectronics Arm Cortex-M4 MCU, 32-128KB flash, 32KB RAM, 170 MHz, 1.71-3.6V, 26 GPIO, UFQFPN32
pins: 1 VDD, 2 PF0, 3 PF1, 4 PG10, 5 PA0, 6 PA1, 7 PA2, 8 PA3, 9 PA4, 10 PA5, 11 PA6, 12 PA7, 13 PB0, 14 VSSA, 15 VDDA, 16 VSS, 17 VDD, 18 PA8, 19 PA9, 20 PA10, 21 PA11, 22 PA12, 23 PA13, 24 PA14, 25 PA15, 26 PB3, 27 PB4, 28 PB5, 29 PB6, 30 PB7, 31 PB8, 32 VSS, 33 VSS

## STM32G431KBTx
designator *  value STM32G431KBTx  Reference: U
STMicroelectronics Arm Cortex-M4 MCU, 128KB flash, 32KB RAM, 170 MHz, 1.71-3.6V, 26 GPIO, LQFP32; ki_keywords: Arm Cortex-M4 STM32G4 STM32G4x1; ki_fp_filters: LQFP*7x7mm*P0.8mm*; Footprint: Package_QFP:LQFP-32_7x7mm_P0.8mm; Datasheet: https://www.st.com/resource/en/datasheet/stm32g431kb.pdf; Description_: STMicroelectronics Arm Cortex-M4 MCU, 128KB flash, 32KB RAM, 170 MHz, 1.71-3.6V, 26 GPIO, LQFP32
pins: 1 VDD, 2 PF0, 3 PF1, 4 PG10, 5 PA0, 6 PA1, 7 PA2, 8 PA3, 9 PA4, 10 PA5, 11 PA6, 12 PA7, 13 PB0, 14 VSSA, 15 VDDA, 16 VSS, 17 VDD, 18 PA8, 19 PA9, 20 PA10, 21 PA11, 22 PA12, 23 PA13, 24 PA14, 25 PA15, 26 PB3, 27 PB4, 28 PB5, 29 PB6, 30 PB7, 31 PB8, 32 VSS

## STM32G431KBUx
designator *  value STM32G431KBUx  Reference: U
STMicroelectronics Arm Cortex-M4 MCU, 128KB flash, 32KB RAM, 170 MHz, 1.71-3.6V, 26 GPIO, UFQFPN32; ki_keywords: Arm Cortex-M4 STM32G4 STM32G4x1; ki_fp_filters: QFN*1EP*5x5mm*P0.5mm*; Footprint: Package_DFN_QFN:QFN-32-1EP_5x5mm_P0.5mm_EP3.45x3.45mm; Datasheet: https://www.st.com/resource/en/datasheet/stm32g431kb.pdf; Description_: STMicroelectronics Arm Cortex-M4 MCU, 128KB flash, 32KB RAM, 170 MHz, 1.71-3.6V, 26 GPIO, UFQFPN32
pins: 1 VDD, 2 PF0, 3 PF1, 4 PG10, 5 PA0, 6 PA1, 7 PA2, 8 PA3, 9 PA4, 10 PA5, 11 PA6, 12 PA7, 13 PB0, 14 VSSA, 15 VDDA, 16 VSS, 17 VDD, 18 PA8, 19 PA9, 20 PA10, 21 PA11, 22 PA12, 23 PA13, 24 PA14, 25 PA15, 26 PB3, 27 PB4, 28 PB5, 29 PB6, 30 PB7, 31 PB8, 32 VSS, 33 VSS

## STM32G431M6Tx
designator *  value STM32G431M6Tx  Reference: U
STMicroelectronics Arm Cortex-M4 MCU, 32KB flash, 32KB RAM, 170 MHz, 1.71-3.6V, 66 GPIO, LQFP80; ki_keywords: Arm Cortex-M4 STM32G4 STM32G4x1; ki_fp_filters: LQFP*12x12mm*P0.5mm*; Footprint: Package_QFP:LQFP-80_12x12mm_P0.5mm; Datasheet: https://www.st.com/resource/en/datasheet/stm32g431m6.pdf; Description_: STMicroelectronics Arm Cortex-M4 MCU, 32KB flash, 32KB RAM, 170 MHz, 1.71-3.6V, 66 GPIO, LQFP80
pins: 1 VBAT, 2 PC13, 3 PC14, 4 PC15, 5 PF0, 6 PF1, 7 PG10, 8 PC0, 9 PC1, 10 PC2, 11 PC3, 12 PA0, 13 PA1, 14 PA2, 15 VSS, 16 VDD, 17 PA3, 18 PA4, 19 PA5, 20 PA6, 21 PA7, 22 PC4, 23 PC5, 24 PB0, 25 PB1, 26 PB2, 27 VSSA, 28 VREF+, 29 VDDA, 30 PE7, 31 PE8, 32 PE9, 33 PE10, 34 PE11, 35 PE12, 36 PE13, 37 PE14, 38 PE15, 39 PB10, 40 VSS, 41 VDD, 42 PB11, 43 PB12, 44 PB13, 45 PB14, 46 PB15, 47 PD8, 48 PD9, 49 PD10, 50 VSS, 51 VDD, 52 PC6, 53 PC7, 54 PC8, 55 PC9, 56 PA8, 57 PA9, 58 PA10, 59 PA11, 60 PA12, 61 VSS, 62 VDD, 63 PA13, 64 PA14, 65 PA15, 66 PC10, 67 PC11, 68 PC12, 69 PD0, 70 PD1, 71 PD2, 72 PB3, 73 PB4, 74 PB5, 75 PB6, 76 PB7, 77 PB8, 78 PB9, 79 VSS, 80 VDD

## STM32G431M8Tx
designator *  value STM32G431M8Tx  Reference: U
STMicroelectronics Arm Cortex-M4 MCU, 64KB flash, 32KB RAM, 170 MHz, 1.71-3.6V, 66 GPIO, LQFP80; ki_keywords: Arm Cortex-M4 STM32G4 STM32G4x1; ki_fp_filters: LQFP*12x12mm*P0.5mm*; Footprint: Package_QFP:LQFP-80_12x12mm_P0.5mm; Datasheet: https://www.st.com/resource/en/datasheet/stm32g431m8.pdf; Description_: STMicroelectronics Arm Cortex-M4 MCU, 64KB flash, 32KB RAM, 170 MHz, 1.71-3.6V, 66 GPIO, LQFP80
pins: 1 VBAT, 2 PC13, 3 PC14, 4 PC15, 5 PF0, 6 PF1, 7 PG10, 8 PC0, 9 PC1, 10 PC2, 11 PC3, 12 PA0, 13 PA1, 14 PA2, 15 VSS, 16 VDD, 17 PA3, 18 PA4, 19 PA5, 20 PA6, 21 PA7, 22 PC4, 23 PC5, 24 PB0, 25 PB1, 26 PB2, 27 VSSA, 28 VREF+, 29 VDDA, 30 PE7, 31 PE8, 32 PE9, 33 PE10, 34 PE11, 35 PE12, 36 PE13, 37 PE14, 38 PE15, 39 PB10, 40 VSS, 41 VDD, 42 PB11, 43 PB12, 44 PB13, 45 PB14, 46 PB15, 47 PD8, 48 PD9, 49 PD10, 50 VSS, 51 VDD, 52 PC6, 53 PC7, 54 PC8, 55 PC9, 56 PA8, 57 PA9, 58 PA10, 59 PA11, 60 PA12, 61 VSS, 62 VDD, 63 PA13, 64 PA14, 65 PA15, 66 PC10, 67 PC11, 68 PC12, 69 PD0, 70 PD1, 71 PD2, 72 PB3, 73 PB4, 74 PB5, 75 PB6, 76 PB7, 77 PB8, 78 PB9, 79 VSS, 80 VDD

## STM32G431M_6-8-B_Tx
designator *  value STM32G431M_6-8-B_Tx  Reference: U
STMicroelectronics Arm Cortex-M4 MCU, 32-128KB flash, 32KB RAM, 170 MHz, 1.71-3.6V, 66 GPIO, LQFP80; ki_keywords: Arm Cortex-M4 STM32G4 STM32G4x1; ki_fp_filters: LQFP*12x12mm*P0.5mm*; Footprint: Package_QFP:LQFP-80_12x12mm_P0.5mm; Datasheet: https://www.st.com/resource/en/datasheet/stm32g431m6.pdf; Description_: STMicroelectronics Arm Cortex-M4 MCU, 32-128KB flash, 32KB RAM, 170 MHz, 1.71-3.6V, 66 GPIO, LQFP80
pins: 1 VBAT, 2 PC13, 3 PC14, 4 PC15, 5 PF0, 6 PF1, 7 PG10, 8 PC0, 9 PC1, 10 PC2, 11 PC3, 12 PA0, 13 PA1, 14 PA2, 15 VSS, 16 VDD, 17 PA3, 18 PA4, 19 PA5, 20 PA6, 21 PA7, 22 PC4, 23 PC5, 24 PB0, 25 PB1, 26 PB2, 27 VSSA, 28 VREF+, 29 VDDA, 30 PE7, 31 PE8, 32 PE9, 33 PE10, 34 PE11, 35 PE12, 36 PE13, 37 PE14, 38 PE15, 39 PB10, 40 VSS, 41 VDD, 42 PB11, 43 PB12, 44 PB13, 45 PB14, 46 PB15, 47 PD8, 48 PD9, 49 PD10, 50 VSS, 51 VDD, 52 PC6, 53 PC7, 54 PC8, 55 PC9, 56 PA8, 57 PA9, 58 PA10, 59 PA11, 60 PA12, 61 VSS, 62 VDD, 63 PA13, 64 PA14, 65 PA15, 66 PC10, 67 PC11, 68 PC12, 69 PD0, 70 PD1, 71 PD2, 72 PB3, 73 PB4, 74 PB5, 75 PB6, 76 PB7, 77 PB8, 78 PB9, 79 VSS, 80 VDD

## STM32G431MBTx
designator *  value STM32G431MBTx  Reference: U
STMicroelectronics Arm Cortex-M4 MCU, 128KB flash, 32KB RAM, 170 MHz, 1.71-3.6V, 66 GPIO, LQFP80; ki_keywords: Arm Cortex-M4 STM32G4 STM32G4x1; ki_fp_filters: LQFP*12x12mm*P0.5mm*; Footprint: Package_QFP:LQFP-80_12x12mm_P0.5mm; Datasheet: https://www.st.com/resource/en/datasheet/stm32g431mb.pdf; Description_: STMicroelectronics Arm Cortex-M4 MCU, 128KB flash, 32KB RAM, 170 MHz, 1.71-3.6V, 66 GPIO, LQFP80
pins: 1 VBAT, 2 PC13, 3 PC14, 4 PC15, 5 PF0, 6 PF1, 7 PG10, 8 PC0, 9 PC1, 10 PC2, 11 PC3, 12 PA0, 13 PA1, 14 PA2, 15 VSS, 16 VDD, 17 PA3, 18 PA4, 19 PA5, 20 PA6, 21 PA7, 22 PC4, 23 PC5, 24 PB0, 25 PB1, 26 PB2, 27 VSSA, 28 VREF+, 29 VDDA, 30 PE7, 31 PE8, 32 PE9, 33 PE10, 34 PE11, 35 PE12, 36 PE13, 37 PE14, 38 PE15, 39 PB10, 40 VSS, 41 VDD, 42 PB11, 43 PB12, 44 PB13, 45 PB14, 46 PB15, 47 PD8, 48 PD9, 49 PD10, 50 VSS, 51 VDD, 52 PC6, 53 PC7, 54 PC8, 55 PC9, 56 PA8, 57 PA9, 58 PA10, 59 PA11, 60 PA12, 61 VSS, 62 VDD, 63 PA13, 64 PA14, 65 PA15, 66 PC10, 67 PC11, 68 PC12, 69 PD0, 70 PD1, 71 PD2, 72 PB3, 73 PB4, 74 PB5, 75 PB6, 76 PB7, 77 PB8, 78 PB9, 79 VSS, 80 VDD

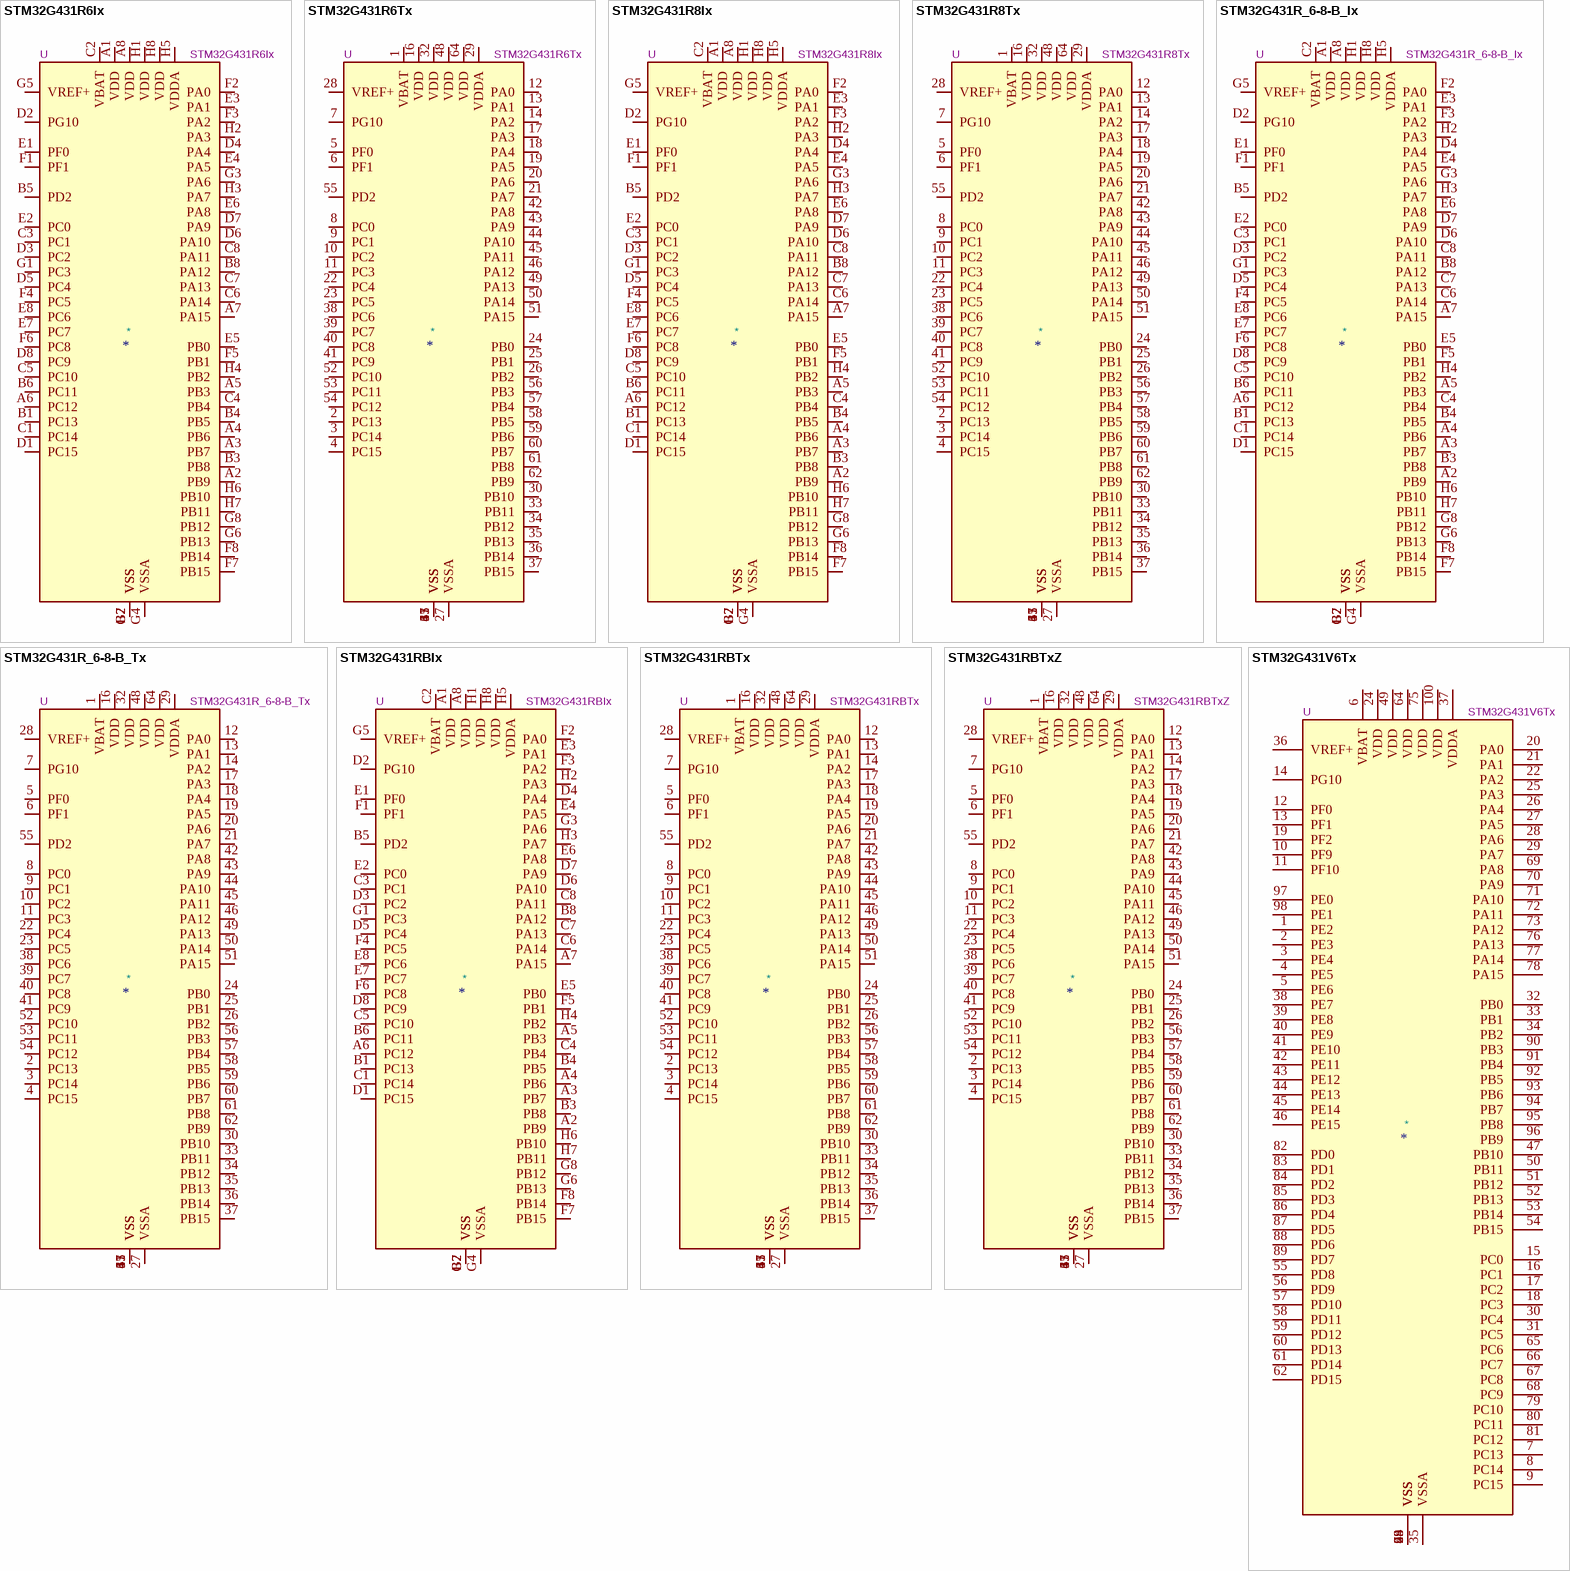
[diagram p3: symbols STM32G431R6Ix to STM32G431V6Tx]

## STM32G431R6Ix
designator *  value STM32G431R6Ix  Reference: U
STMicroelectronics Arm Cortex-M4 MCU, 32KB flash, 32KB RAM, 170 MHz, 1.71-3.6V, 52 GPIO, UFBGA64; ki_keywords: Arm Cortex-M4 STM32G4 STM32G4x1; ki_fp_filters: UFBGA*5x5mm*Layout8x8*P0.5mm*; Footprint: Package_BGA:UFBGA-64_5x5mm_Layout8x8_P0.5mm; Datasheet: https://www.st.com/resource/en/datasheet/stm32g431r6.pdf; Description_: STMicroelectronics Arm Cortex-M4 MCU, 32KB flash, 32KB RAM, 170 MHz, 1.71-3.6V, 52 GPIO, UFBGA64
pins: A1 VDD, A2 PB9, A3 PB7, A4 PB6, A5 PB3, A6 PC12, A7 PA15, A8 VDD, B1 PC13, B2 VSS, B3 PB8, B4 PB5, B5 PD2, B6 PC11, B7 VSS, B8 PA12, C1 PC14, C2 VBAT, C3 PC1, C4 PB4, C5 PC10, C6 PA14, C7 PA13, C8 PA11, D1 PC15, D2 PG10, D3 PC2, D4 PA4, D5 PC4, D6 PA10, D7 PA9, D8 PC9, E1 PF0, E2 PC0, E3 PA1, E4 PA5, E5 PB0, E6 PA8, E7 PC7, E8 PC6, F1 PF1, F2 PA0, F3 PA2, F4 PC5, F5 PB1, F6 PC8, F7 PB15, F8 PB14, G1 PC3, G2 VSS, G3 PA6, G4 VSSA, G5 VREF+, G6 PB13, G7 VSS, G8 PB12, H1 VDD, H2 PA3, H3 PA7, H4 PB2, H5 VDDA, H6 PB10, H7 PB11, H8 VDD

## STM32G431R6Tx
designator *  value STM32G431R6Tx  Reference: U
STMicroelectronics Arm Cortex-M4 MCU, 32KB flash, 32KB RAM, 170 MHz, 1.71-3.6V, 52 GPIO, LQFP64; ki_keywords: Arm Cortex-M4 STM32G4 STM32G4x1; ki_fp_filters: LQFP*10x10mm*P0.5mm*; Footprint: Package_QFP:LQFP-64_10x10mm_P0.5mm; Datasheet: https://www.st.com/resource/en/datasheet/stm32g431r6.pdf; Description_: STMicroelectronics Arm Cortex-M4 MCU, 32KB flash, 32KB RAM, 170 MHz, 1.71-3.6V, 52 GPIO, LQFP64
pins: 1 VBAT, 2 PC13, 3 PC14, 4 PC15, 5 PF0, 6 PF1, 7 PG10, 8 PC0, 9 PC1, 10 PC2, 11 PC3, 12 PA0, 13 PA1, 14 PA2, 15 VSS, 16 VDD, 17 PA3, 18 PA4, 19 PA5, 20 PA6, 21 PA7, 22 PC4, 23 PC5, 24 PB0, 25 PB1, 26 PB2, 27 VSSA, 28 VREF+, 29 VDDA, 30 PB10, 31 VSS, 32 VDD, 33 PB11, 34 PB12, 35 PB13, 36 PB14, 37 PB15, 38 PC6, 39 PC7, 40 PC8, 41 PC9, 42 PA8, 43 PA9, 44 PA10, 45 PA11, 46 PA12, 47 VSS, 48 VDD, 49 PA13, 50 PA14, 51 PA15, 52 PC10, 53 PC11, 54 PC12, 55 PD2, 56 PB3, 57 PB4, 58 PB5, 59 PB6, 60 PB7, 61 PB8, 62 PB9, 63 VSS, 64 VDD

## STM32G431R8Ix
designator *  value STM32G431R8Ix  Reference: U
STMicroelectronics Arm Cortex-M4 MCU, 64KB flash, 32KB RAM, 170 MHz, 1.71-3.6V, 52 GPIO, UFBGA64; ki_keywords: Arm Cortex-M4 STM32G4 STM32G4x1; ki_fp_filters: UFBGA*5x5mm*Layout8x8*P0.5mm*; Footprint: Package_BGA:UFBGA-64_5x5mm_Layout8x8_P0.5mm; Datasheet: https://www.st.com/resource/en/datasheet/stm32g431r8.pdf; Description_: STMicroelectronics Arm Cortex-M4 MCU, 64KB flash, 32KB RAM, 170 MHz, 1.71-3.6V, 52 GPIO, UFBGA64
pins: A1 VDD, A2 PB9, A3 PB7, A4 PB6, A5 PB3, A6 PC12, A7 PA15, A8 VDD, B1 PC13, B2 VSS, B3 PB8, B4 PB5, B5 PD2, B6 PC11, B7 VSS, B8 PA12, C1 PC14, C2 VBAT, C3 PC1, C4 PB4, C5 PC10, C6 PA14, C7 PA13, C8 PA11, D1 PC15, D2 PG10, D3 PC2, D4 PA4, D5 PC4, D6 PA10, D7 PA9, D8 PC9, E1 PF0, E2 PC0, E3 PA1, E4 PA5, E5 PB0, E6 PA8, E7 PC7, E8 PC6, F1 PF1, F2 PA0, F3 PA2, F4 PC5, F5 PB1, F6 PC8, F7 PB15, F8 PB14, G1 PC3, G2 VSS, G3 PA6, G4 VSSA, G5 VREF+, G6 PB13, G7 VSS, G8 PB12, H1 VDD, H2 PA3, H3 PA7, H4 PB2, H5 VDDA, H6 PB10, H7 PB11, H8 VDD

## STM32G431R8Tx
designator *  value STM32G431R8Tx  Reference: U
STMicroelectronics Arm Cortex-M4 MCU, 64KB flash, 32KB RAM, 170 MHz, 1.71-3.6V, 52 GPIO, LQFP64; ki_keywords: Arm Cortex-M4 STM32G4 STM32G4x1; ki_fp_filters: LQFP*10x10mm*P0.5mm*; Footprint: Package_QFP:LQFP-64_10x10mm_P0.5mm; Datasheet: https://www.st.com/resource/en/datasheet/stm32g431r8.pdf; Description_: STMicroelectronics Arm Cortex-M4 MCU, 64KB flash, 32KB RAM, 170 MHz, 1.71-3.6V, 52 GPIO, LQFP64
pins: 1 VBAT, 2 PC13, 3 PC14, 4 PC15, 5 PF0, 6 PF1, 7 PG10, 8 PC0, 9 PC1, 10 PC2, 11 PC3, 12 PA0, 13 PA1, 14 PA2, 15 VSS, 16 VDD, 17 PA3, 18 PA4, 19 PA5, 20 PA6, 21 PA7, 22 PC4, 23 PC5, 24 PB0, 25 PB1, 26 PB2, 27 VSSA, 28 VREF+, 29 VDDA, 30 PB10, 31 VSS, 32 VDD, 33 PB11, 34 PB12, 35 PB13, 36 PB14, 37 PB15, 38 PC6, 39 PC7, 40 PC8, 41 PC9, 42 PA8, 43 PA9, 44 PA10, 45 PA11, 46 PA12, 47 VSS, 48 VDD, 49 PA13, 50 PA14, 51 PA15, 52 PC10, 53 PC11, 54 PC12, 55 PD2, 56 PB3, 57 PB4, 58 PB5, 59 PB6, 60 PB7, 61 PB8, 62 PB9, 63 VSS, 64 VDD

## STM32G431R_6-8-B_Ix
designator *  value STM32G431R_6-8-B_Ix  Reference: U
STMicroelectronics Arm Cortex-M4 MCU, 32-128KB flash, 32KB RAM, 170 MHz, 1.71-3.6V, 52 GPIO, UFBGA64; ki_keywords: Arm Cortex-M4 STM32G4 STM32G4x1; ki_fp_filters: UFBGA*5x5mm*Layout8x8*P0.5mm*; Footprint: Package_BGA:UFBGA-64_5x5mm_Layout8x8_P0.5mm; Datasheet: https://www.st.com/resource/en/datasheet/stm32g431r6.pdf; Description_: STMicroelectronics Arm Cortex-M4 MCU, 32-128KB flash, 32KB RAM, 170 MHz, 1.71-3.6V, 52 GPIO, UFBGA64
pins: A1 VDD, A2 PB9, A3 PB7, A4 PB6, A5 PB3, A6 PC12, A7 PA15, A8 VDD, B1 PC13, B2 VSS, B3 PB8, B4 PB5, B5 PD2, B6 PC11, B7 VSS, B8 PA12, C1 PC14, C2 VBAT, C3 PC1, C4 PB4, C5 PC10, C6 PA14, C7 PA13, C8 PA11, D1 PC15, D2 PG10, D3 PC2, D4 PA4, D5 PC4, D6 PA10, D7 PA9, D8 PC9, E1 PF0, E2 PC0, E3 PA1, E4 PA5, E5 PB0, E6 PA8, E7 PC7, E8 PC6, F1 PF1, F2 PA0, F3 PA2, F4 PC5, F5 PB1, F6 PC8, F7 PB15, F8 PB14, G1 PC3, G2 VSS, G3 PA6, G4 VSSA, G5 VREF+, G6 PB13, G7 VSS, G8 PB12, H1 VDD, H2 PA3, H3 PA7, H4 PB2, H5 VDDA, H6 PB10, H7 PB11, H8 VDD

## STM32G431R_6-8-B_Tx
designator *  value STM32G431R_6-8-B_Tx  Reference: U
STMicroelectronics Arm Cortex-M4 MCU, 32-128KB flash, 32KB RAM, 170 MHz, 1.71-3.6V, 52 GPIO, LQFP64; ki_keywords: Arm Cortex-M4 STM32G4 STM32G4x1; ki_fp_filters: LQFP*10x10mm*P0.5mm*; Footprint: Package_QFP:LQFP-64_10x10mm_P0.5mm; Datasheet: https://www.st.com/resource/en/datasheet/stm32g431r6.pdf; Description_: STMicroelectronics Arm Cortex-M4 MCU, 32-128KB flash, 32KB RAM, 170 MHz, 1.71-3.6V, 52 GPIO, LQFP64
pins: 1 VBAT, 2 PC13, 3 PC14, 4 PC15, 5 PF0, 6 PF1, 7 PG10, 8 PC0, 9 PC1, 10 PC2, 11 PC3, 12 PA0, 13 PA1, 14 PA2, 15 VSS, 16 VDD, 17 PA3, 18 PA4, 19 PA5, 20 PA6, 21 PA7, 22 PC4, 23 PC5, 24 PB0, 25 PB1, 26 PB2, 27 VSSA, 28 VREF+, 29 VDDA, 30 PB10, 31 VSS, 32 VDD, 33 PB11, 34 PB12, 35 PB13, 36 PB14, 37 PB15, 38 PC6, 39 PC7, 40 PC8, 41 PC9, 42 PA8, 43 PA9, 44 PA10, 45 PA11, 46 PA12, 47 VSS, 48 VDD, 49 PA13, 50 PA14, 51 PA15, 52 PC10, 53 PC11, 54 PC12, 55 PD2, 56 PB3, 57 PB4, 58 PB5, 59 PB6, 60 PB7, 61 PB8, 62 PB9, 63 VSS, 64 VDD

## STM32G431RBIx
designator *  value STM32G431RBIx  Reference: U
STMicroelectronics Arm Cortex-M4 MCU, 128KB flash, 32KB RAM, 170 MHz, 1.71-3.6V, 52 GPIO, UFBGA64; ki_keywords: Arm Cortex-M4 STM32G4 STM32G4x1; ki_fp_filters: UFBGA*5x5mm*Layout8x8*P0.5mm*; Footprint: Package_BGA:UFBGA-64_5x5mm_Layout8x8_P0.5mm; Datasheet: https://www.st.com/resource/en/datasheet/stm32g431rb.pdf; Description_: STMicroelectronics Arm Cortex-M4 MCU, 128KB flash, 32KB RAM, 170 MHz, 1.71-3.6V, 52 GPIO, UFBGA64
pins: A1 VDD, A2 PB9, A3 PB7, A4 PB6, A5 PB3, A6 PC12, A7 PA15, A8 VDD, B1 PC13, B2 VSS, B3 PB8, B4 PB5, B5 PD2, B6 PC11, B7 VSS, B8 PA12, C1 PC14, C2 VBAT, C3 PC1, C4 PB4, C5 PC10, C6 PA14, C7 PA13, C8 PA11, D1 PC15, D2 PG10, D3 PC2, D4 PA4, D5 PC4, D6 PA10, D7 PA9, D8 PC9, E1 PF0, E2 PC0, E3 PA1, E4 PA5, E5 PB0, E6 PA8, E7 PC7, E8 PC6, F1 PF1, F2 PA0, F3 PA2, F4 PC5, F5 PB1, F6 PC8, F7 PB15, F8 PB14, G1 PC3, G2 VSS, G3 PA6, G4 VSSA, G5 VREF+, G6 PB13, G7 VSS, G8 PB12, H1 VDD, H2 PA3, H3 PA7, H4 PB2, H5 VDDA, H6 PB10, H7 PB11, H8 VDD

## STM32G431RBTx
designator *  value STM32G431RBTx  Reference: U
STMicroelectronics Arm Cortex-M4 MCU, 128KB flash, 32KB RAM, 170 MHz, 1.71-3.6V, 52 GPIO, LQFP64; ki_keywords: Arm Cortex-M4 STM32G4 STM32G4x1; ki_fp_filters: LQFP*10x10mm*P0.5mm*; Footprint: Package_QFP:LQFP-64_10x10mm_P0.5mm; Datasheet: https://www.st.com/resource/en/datasheet/stm32g431rb.pdf; Description_: STMicroelectronics Arm Cortex-M4 MCU, 128KB flash, 32KB RAM, 170 MHz, 1.71-3.6V, 52 GPIO, LQFP64
pins: 1 VBAT, 2 PC13, 3 PC14, 4 PC15, 5 PF0, 6 PF1, 7 PG10, 8 PC0, 9 PC1, 10 PC2, 11 PC3, 12 PA0, 13 PA1, 14 PA2, 15 VSS, 16 VDD, 17 PA3, 18 PA4, 19 PA5, 20 PA6, 21 PA7, 22 PC4, 23 PC5, 24 PB0, 25 PB1, 26 PB2, 27 VSSA, 28 VREF+, 29 VDDA, 30 PB10, 31 VSS, 32 VDD, 33 PB11, 34 PB12, 35 PB13, 36 PB14, 37 PB15, 38 PC6, 39 PC7, 40 PC8, 41 PC9, 42 PA8, 43 PA9, 44 PA10, 45 PA11, 46 PA12, 47 VSS, 48 VDD, 49 PA13, 50 PA14, 51 PA15, 52 PC10, 53 PC11, 54 PC12, 55 PD2, 56 PB3, 57 PB4, 58 PB5, 59 PB6, 60 PB7, 61 PB8, 62 PB9, 63 VSS, 64 VDD

## STM32G431RBTxZ
designator *  value STM32G431RBTxZ  Reference: U
STMicroelectronics Arm Cortex-M4 MCU, 128KB flash, 32KB RAM, 170 MHz, 1.71-3.6V, 52 GPIO, LQFP64; ki_keywords: Arm Cortex-M4 STM32G4 STM32G4x1; ki_fp_filters: LQFP*10x10mm*P0.5mm*; Footprint: Package_QFP:LQFP-64_10x10mm_P0.5mm; Datasheet: https://www.st.com/resource/en/datasheet/stm32g431rb.pdf; Description_: STMicroelectronics Arm Cortex-M4 MCU, 128KB flash, 32KB RAM, 170 MHz, 1.71-3.6V, 52 GPIO, LQFP64
pins: 1 VBAT, 2 PC13, 3 PC14, 4 PC15, 5 PF0, 6 PF1, 7 PG10, 8 PC0, 9 PC1, 10 PC2, 11 PC3, 12 PA0, 13 PA1, 14 PA2, 15 VSS, 16 VDD, 17 PA3, 18 PA4, 19 PA5, 20 PA6, 21 PA7, 22 PC4, 23 PC5, 24 PB0, 25 PB1, 26 PB2, 27 VSSA, 28 VREF+, 29 VDDA, 30 PB10, 31 VSS, 32 VDD, 33 PB11, 34 PB12, 35 PB13, 36 PB14, 37 PB15, 38 PC6, 39 PC7, 40 PC8, 41 PC9, 42 PA8, 43 PA9, 44 PA10, 45 PA11, 46 PA12, 47 VSS, 48 VDD, 49 PA13, 50 PA14, 51 PA15, 52 PC10, 53 PC11, 54 PC12, 55 PD2, 56 PB3, 57 PB4, 58 PB5, 59 PB6, 60 PB7, 61 PB8, 62 PB9, 63 VSS, 64 VDD

## STM32G431V6Tx
designator *  value STM32G431V6Tx  Reference: U
STMicroelectronics Arm Cortex-M4 MCU, 32KB flash, 32KB RAM, 170 MHz, 1.71-3.6V, 86 GPIO, LQFP100; ki_keywords: Arm Cortex-M4 STM32G4 STM32G4x1; ki_fp_filters: LQFP*14x14mm*P0.5mm*; Footprint: Package_QFP:LQFP-100_14x14mm_P0.5mm; Datasheet: https://www.st.com/resource/en/datasheet/stm32g431v6.pdf; Description_: STMicroelectronics Arm Cortex-M4 MCU, 32KB flash, 32KB RAM, 170 MHz, 1.71-3.6V, 86 GPIO, LQFP100
pins: 1 PE2, 2 PE3, 3 PE4, 4 PE5, 5 PE6, 6 VBAT, 7 PC13, 8 PC14, 9 PC15, 10 PF9, 11 PF10, 12 PF0, 13 PF1, 14 PG10, 15 PC0, 16 PC1, 17 PC2, 18 PC3, 19 PF2, 20 PA0, 21 PA1, 22 PA2, 23 VSS, 24 VDD, 25 PA3, 26 PA4, 27 PA5, 28 PA6, 29 PA7, 30 PC4, 31 PC5, 32 PB0, 33 PB1, 34 PB2, 35 VSSA, 36 VREF+, 37 VDDA, 38 PE7, 39 PE8, 40 PE9, 41 PE10, 42 PE11, 43 PE12, 44 PE13, 45 PE14, 46 PE15, 47 PB10, 48 VSS, 49 VDD, 50 PB11, 51 PB12, 52 PB13, 53 PB14, 54 PB15, 55 PD8, 56 PD9, 57 PD10, 58 PD11, 59 PD12, 60 PD13, 61 PD14, 62 PD15, 63 VSS, 64 VDD, 65 PC6, 66 PC7, 67 PC8, 68 PC9, 69 PA8, 70 PA9, 71 PA10, 72 PA11, 73 PA12, 74 VSS, 75 VDD, 76 PA13, 77 PA14, 78 PA15, 79 PC10, 80 PC11, 81 PC12, 82 PD0, 83 PD1, 84 PD2, 85 PD3, 86 PD4, 87 PD5, 88 PD6, 89 PD7, 90 PB3, 91 PB4, 92 PB5, 93 PB6, 94 PB7, 95 PB8, 96 PB9, 97 PE0, 98 PE1, 99 VSS, 100 VDD

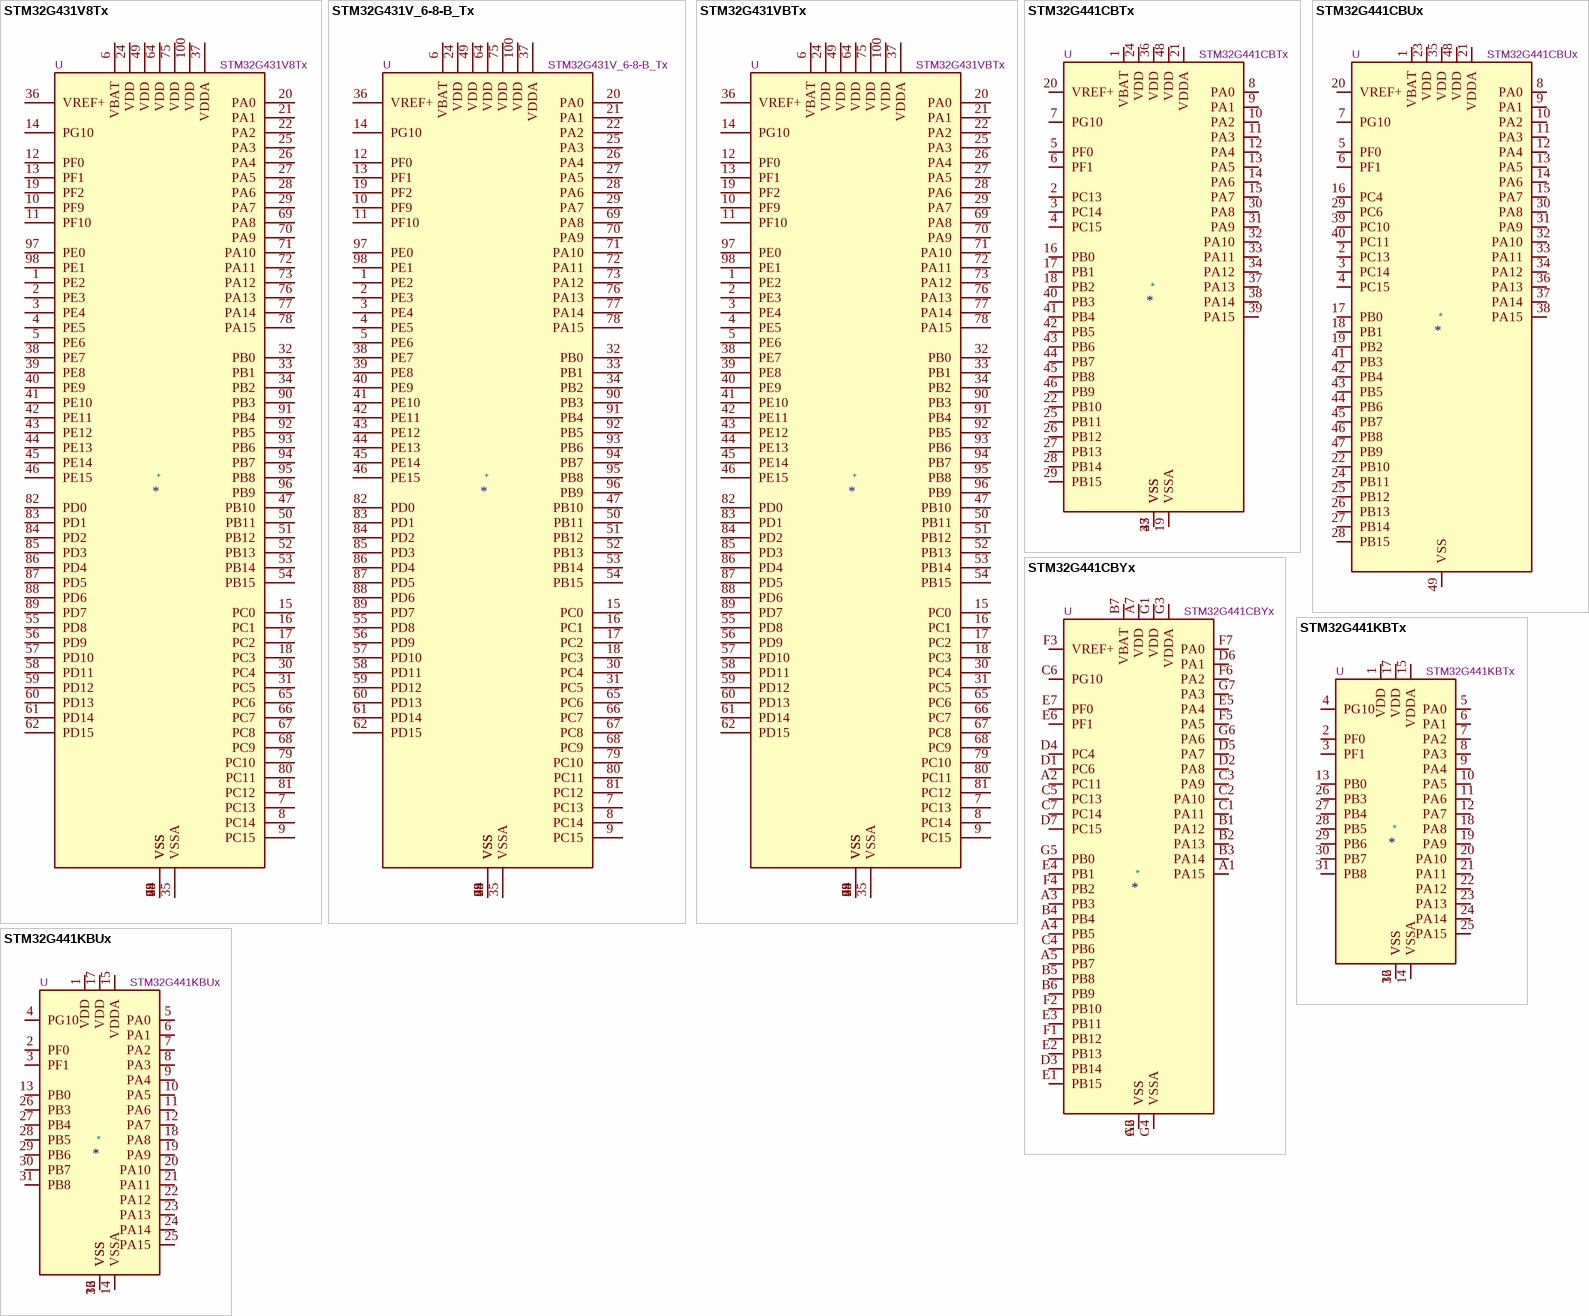
[diagram p4: symbols STM32G431V8Tx to STM32G441KBUx]

## STM32G431V8Tx
designator *  value STM32G431V8Tx  Reference: U
STMicroelectronics Arm Cortex-M4 MCU, 64KB flash, 32KB RAM, 170 MHz, 1.71-3.6V, 86 GPIO, LQFP100; ki_keywords: Arm Cortex-M4 STM32G4 STM32G4x1; ki_fp_filters: LQFP*14x14mm*P0.5mm*; Footprint: Package_QFP:LQFP-100_14x14mm_P0.5mm; Datasheet: https://www.st.com/resource/en/datasheet/stm32g431v8.pdf; Description_: STMicroelectronics Arm Cortex-M4 MCU, 64KB flash, 32KB RAM, 170 MHz, 1.71-3.6V, 86 GPIO, LQFP100
pins: 1 PE2, 2 PE3, 3 PE4, 4 PE5, 5 PE6, 6 VBAT, 7 PC13, 8 PC14, 9 PC15, 10 PF9, 11 PF10, 12 PF0, 13 PF1, 14 PG10, 15 PC0, 16 PC1, 17 PC2, 18 PC3, 19 PF2, 20 PA0, 21 PA1, 22 PA2, 23 VSS, 24 VDD, 25 PA3, 26 PA4, 27 PA5, 28 PA6, 29 PA7, 30 PC4, 31 PC5, 32 PB0, 33 PB1, 34 PB2, 35 VSSA, 36 VREF+, 37 VDDA, 38 PE7, 39 PE8, 40 PE9, 41 PE10, 42 PE11, 43 PE12, 44 PE13, 45 PE14, 46 PE15, 47 PB10, 48 VSS, 49 VDD, 50 PB11, 51 PB12, 52 PB13, 53 PB14, 54 PB15, 55 PD8, 56 PD9, 57 PD10, 58 PD11, 59 PD12, 60 PD13, 61 PD14, 62 PD15, 63 VSS, 64 VDD, 65 PC6, 66 PC7, 67 PC8, 68 PC9, 69 PA8, 70 PA9, 71 PA10, 72 PA11, 73 PA12, 74 VSS, 75 VDD, 76 PA13, 77 PA14, 78 PA15, 79 PC10, 80 PC11, 81 PC12, 82 PD0, 83 PD1, 84 PD2, 85 PD3, 86 PD4, 87 PD5, 88 PD6, 89 PD7, 90 PB3, 91 PB4, 92 PB5, 93 PB6, 94 PB7, 95 PB8, 96 PB9, 97 PE0, 98 PE1, 99 VSS, 100 VDD

## STM32G431V_6-8-B_Tx
designator *  value STM32G431V_6-8-B_Tx  Reference: U
STMicroelectronics Arm Cortex-M4 MCU, 32-128KB flash, 32KB RAM, 170 MHz, 1.71-3.6V, 86 GPIO, LQFP100; ki_keywords: Arm Cortex-M4 STM32G4 STM32G4x1; ki_fp_filters: LQFP*14x14mm*P0.5mm*; Footprint: Package_QFP:LQFP-100_14x14mm_P0.5mm; Datasheet: https://www.st.com/resource/en/datasheet/stm32g431v6.pdf; Description_: STMicroelectronics Arm Cortex-M4 MCU, 32-128KB flash, 32KB RAM, 170 MHz, 1.71-3.6V, 86 GPIO, LQFP100
pins: 1 PE2, 2 PE3, 3 PE4, 4 PE5, 5 PE6, 6 VBAT, 7 PC13, 8 PC14, 9 PC15, 10 PF9, 11 PF10, 12 PF0, 13 PF1, 14 PG10, 15 PC0, 16 PC1, 17 PC2, 18 PC3, 19 PF2, 20 PA0, 21 PA1, 22 PA2, 23 VSS, 24 VDD, 25 PA3, 26 PA4, 27 PA5, 28 PA6, 29 PA7, 30 PC4, 31 PC5, 32 PB0, 33 PB1, 34 PB2, 35 VSSA, 36 VREF+, 37 VDDA, 38 PE7, 39 PE8, 40 PE9, 41 PE10, 42 PE11, 43 PE12, 44 PE13, 45 PE14, 46 PE15, 47 PB10, 48 VSS, 49 VDD, 50 PB11, 51 PB12, 52 PB13, 53 PB14, 54 PB15, 55 PD8, 56 PD9, 57 PD10, 58 PD11, 59 PD12, 60 PD13, 61 PD14, 62 PD15, 63 VSS, 64 VDD, 65 PC6, 66 PC7, 67 PC8, 68 PC9, 69 PA8, 70 PA9, 71 PA10, 72 PA11, 73 PA12, 74 VSS, 75 VDD, 76 PA13, 77 PA14, 78 PA15, 79 PC10, 80 PC11, 81 PC12, 82 PD0, 83 PD1, 84 PD2, 85 PD3, 86 PD4, 87 PD5, 88 PD6, 89 PD7, 90 PB3, 91 PB4, 92 PB5, 93 PB6, 94 PB7, 95 PB8, 96 PB9, 97 PE0, 98 PE1, 99 VSS, 100 VDD

## STM32G431VBTx
designator *  value STM32G431VBTx  Reference: U
STMicroelectronics Arm Cortex-M4 MCU, 128KB flash, 32KB RAM, 170 MHz, 1.71-3.6V, 86 GPIO, LQFP100; ki_keywords: Arm Cortex-M4 STM32G4 STM32G4x1; ki_fp_filters: LQFP*14x14mm*P0.5mm*; Footprint: Package_QFP:LQFP-100_14x14mm_P0.5mm; Datasheet: https://www.st.com/resource/en/datasheet/stm32g431vb.pdf; Description_: STMicroelectronics Arm Cortex-M4 MCU, 128KB flash, 32KB RAM, 170 MHz, 1.71-3.6V, 86 GPIO, LQFP100
pins: 1 PE2, 2 PE3, 3 PE4, 4 PE5, 5 PE6, 6 VBAT, 7 PC13, 8 PC14, 9 PC15, 10 PF9, 11 PF10, 12 PF0, 13 PF1, 14 PG10, 15 PC0, 16 PC1, 17 PC2, 18 PC3, 19 PF2, 20 PA0, 21 PA1, 22 PA2, 23 VSS, 24 VDD, 25 PA3, 26 PA4, 27 PA5, 28 PA6, 29 PA7, 30 PC4, 31 PC5, 32 PB0, 33 PB1, 34 PB2, 35 VSSA, 36 VREF+, 37 VDDA, 38 PE7, 39 PE8, 40 PE9, 41 PE10, 42 PE11, 43 PE12, 44 PE13, 45 PE14, 46 PE15, 47 PB10, 48 VSS, 49 VDD, 50 PB11, 51 PB12, 52 PB13, 53 PB14, 54 PB15, 55 PD8, 56 PD9, 57 PD10, 58 PD11, 59 PD12, 60 PD13, 61 PD14, 62 PD15, 63 VSS, 64 VDD, 65 PC6, 66 PC7, 67 PC8, 68 PC9, 69 PA8, 70 PA9, 71 PA10, 72 PA11, 73 PA12, 74 VSS, 75 VDD, 76 PA13, 77 PA14, 78 PA15, 79 PC10, 80 PC11, 81 PC12, 82 PD0, 83 PD1, 84 PD2, 85 PD3, 86 PD4, 87 PD5, 88 PD6, 89 PD7, 90 PB3, 91 PB4, 92 PB5, 93 PB6, 94 PB7, 95 PB8, 96 PB9, 97 PE0, 98 PE1, 99 VSS, 100 VDD

## STM32G441CBTx
designator *  value STM32G441CBTx  Reference: U
STMicroelectronics Arm Cortex-M4 MCU, 128KB flash, 32KB RAM, 170 MHz, 1.71-3.6V, 38 GPIO, LQFP48; ki_keywords: Arm Cortex-M4 STM32G4 STM32G4x1; ki_fp_filters: LQFP*7x7mm*P0.5mm*; Footprint: Package_QFP:LQFP-48_7x7mm_P0.5mm; Datasheet: https://www.st.com/resource/en/datasheet/stm32g441cb.pdf; Description_: STMicroelectronics Arm Cortex-M4 MCU, 128KB flash, 32KB RAM, 170 MHz, 1.71-3.6V, 38 GPIO, LQFP48
pins: 1 VBAT, 2 PC13, 3 PC14, 4 PC15, 5 PF0, 6 PF1, 7 PG10, 8 PA0, 9 PA1, 10 PA2, 11 PA3, 12 PA4, 13 PA5, 14 PA6, 15 PA7, 16 PB0, 17 PB1, 18 PB2, 19 VSSA, 20 VREF+, 21 VDDA, 22 PB10, 23 VSS, 24 VDD, 25 PB11, 26 PB12, 27 PB13, 28 PB14, 29 PB15, 30 PA8, 31 PA9, 32 PA10, 33 PA11, 34 PA12, 35 VSS, 36 VDD, 37 PA13, 38 PA14, 39 PA15, 40 PB3, 41 PB4, 42 PB5, 43 PB6, 44 PB7, 45 PB8, 46 PB9, 47 VSS, 48 VDD

## STM32G441CBUx
designator *  value STM32G441CBUx  Reference: U
STMicroelectronics Arm Cortex-M4 MCU, 128KB flash, 32KB RAM, 170 MHz, 1.71-3.6V, 42 GPIO, UFQFPN48; ki_keywords: Arm Cortex-M4 STM32G4 STM32G4x1; ki_fp_filters: QFN*1EP*7x7mm*P0.5mm*; Footprint: Package_DFN_QFN:QFN-48-1EP_7x7mm_P0.5mm_EP5.6x5.6mm; Datasheet: https://www.st.com/resource/en/datasheet/stm32g441cb.pdf; Description_: STMicroelectronics Arm Cortex-M4 MCU, 128KB flash, 32KB RAM, 170 MHz, 1.71-3.6V, 42 GPIO, UFQFPN48
pins: 1 VBAT, 2 PC13, 3 PC14, 4 PC15, 5 PF0, 6 PF1, 7 PG10, 8 PA0, 9 PA1, 10 PA2, 11 PA3, 12 PA4, 13 PA5, 14 PA6, 15 PA7, 16 PC4, 17 PB0, 18 PB1, 19 PB2, 20 VREF+, 21 VDDA, 22 PB10, 23 VDD, 24 PB11, 25 PB12, 26 PB13, 27 PB14, 28 PB15, 29 PC6, 30 PA8, 31 PA9, 32 PA10, 33 PA11, 34 PA12, 35 VDD, 36 PA13, 37 PA14, 38 PA15, 39 PC10, 40 PC11, 41 PB3, 42 PB4, 43 PB5, 44 PB6, 45 PB7, 46 PB8, 47 PB9, 48 VDD, 49 VSS

## STM32G441CBYx
designator *  value STM32G441CBYx  Reference: U
STMicroelectronics Arm Cortex-M4 MCU, 128KB flash, 32KB RAM, 170 MHz, 1.71-3.6V, 41 GPIO, WLCSP49; ki_keywords: Arm Cortex-M4 STM32G4 STM32G4x1; ki_fp_filters: ST*WLCSP*3.15x3.13mm*Layout7x7*P0.4mm*; Footprint: Package_CSP:ST_WLCSP-49_3.15x3.13mm_Layout7x7_P0.4mm; Datasheet: https://www.st.com/resource/en/datasheet/stm32g441cb.pdf; Description_: STMicroelectronics Arm Cortex-M4 MCU, 128KB flash, 32KB RAM, 170 MHz, 1.71-3.6V, 41 GPIO, WLCSP49
pins: A1 PA15, A2 PC11, A3 PB3, A4 PB5, A5 PB7, A6 VSS, A7 VDD, B1 PA12, B2 PA13, B3 PA14, B4 PB4, B5 PB8, B6 PB9, B7 VBAT, C1 PA11, C2 PA10, C3 PA9, C4 PB6, C5 PC13, C6 PG10, C7 PC14, D1 PC6, D2 PA8, D3 PB14, D4 PC4, D5 PA7, D6 PA1, D7 PC15, E1 PB15, E2 PB13, E3 PB11, E4 PB1, E5 PA4, E6 PF1, E7 PF0, F1 PB12, F2 PB10, F3 VREF+, F4 PB2, F5 PA5, F6 PA2, F7 PA0, G1 VDD, G2 VSS, G3 VDDA, G4 VSSA, G5 PB0, G6 PA6, G7 PA3

## STM32G441KBTx
designator *  value STM32G441KBTx  Reference: U
STMicroelectronics Arm Cortex-M4 MCU, 128KB flash, 32KB RAM, 170 MHz, 1.71-3.6V, 26 GPIO, LQFP32; ki_keywords: Arm Cortex-M4 STM32G4 STM32G4x1; ki_fp_filters: LQFP*7x7mm*P0.8mm*; Footprint: Package_QFP:LQFP-32_7x7mm_P0.8mm; Datasheet: https://www.st.com/resource/en/datasheet/stm32g441kb.pdf; Description_: STMicroelectronics Arm Cortex-M4 MCU, 128KB flash, 32KB RAM, 170 MHz, 1.71-3.6V, 26 GPIO, LQFP32
pins: 1 VDD, 2 PF0, 3 PF1, 4 PG10, 5 PA0, 6 PA1, 7 PA2, 8 PA3, 9 PA4, 10 PA5, 11 PA6, 12 PA7, 13 PB0, 14 VSSA, 15 VDDA, 16 VSS, 17 VDD, 18 PA8, 19 PA9, 20 PA10, 21 PA11, 22 PA12, 23 PA13, 24 PA14, 25 PA15, 26 PB3, 27 PB4, 28 PB5, 29 PB6, 30 PB7, 31 PB8, 32 VSS

## STM32G441KBUx
designator *  value STM32G441KBUx  Reference: U
STMicroelectronics Arm Cortex-M4 MCU, 128KB flash, 32KB RAM, 170 MHz, 1.71-3.6V, 26 GPIO, UFQFPN32; ki_keywords: Arm Cortex-M4 STM32G4 STM32G4x1; ki_fp_filters: QFN*1EP*5x5mm*P0.5mm*; Footprint: Package_DFN_QFN:QFN-32-1EP_5x5mm_P0.5mm_EP3.45x3.45mm; Datasheet: https://www.st.com/resource/en/datasheet/stm32g441kb.pdf; Description_: STMicroelectronics Arm Cortex-M4 MCU, 128KB flash, 32KB RAM, 170 MHz, 1.71-3.6V, 26 GPIO, UFQFPN32
pins: 1 VDD, 2 PF0, 3 PF1, 4 PG10, 5 PA0, 6 PA1, 7 PA2, 8 PA3, 9 PA4, 10 PA5, 11 PA6, 12 PA7, 13 PB0, 14 VSSA, 15 VDDA, 16 VSS, 17 VDD, 18 PA8, 19 PA9, 20 PA10, 21 PA11, 22 PA12, 23 PA13, 24 PA14, 25 PA15, 26 PB3, 27 PB4, 28 PB5, 29 PB6, 30 PB7, 31 PB8, 32 VSS, 33 VSS

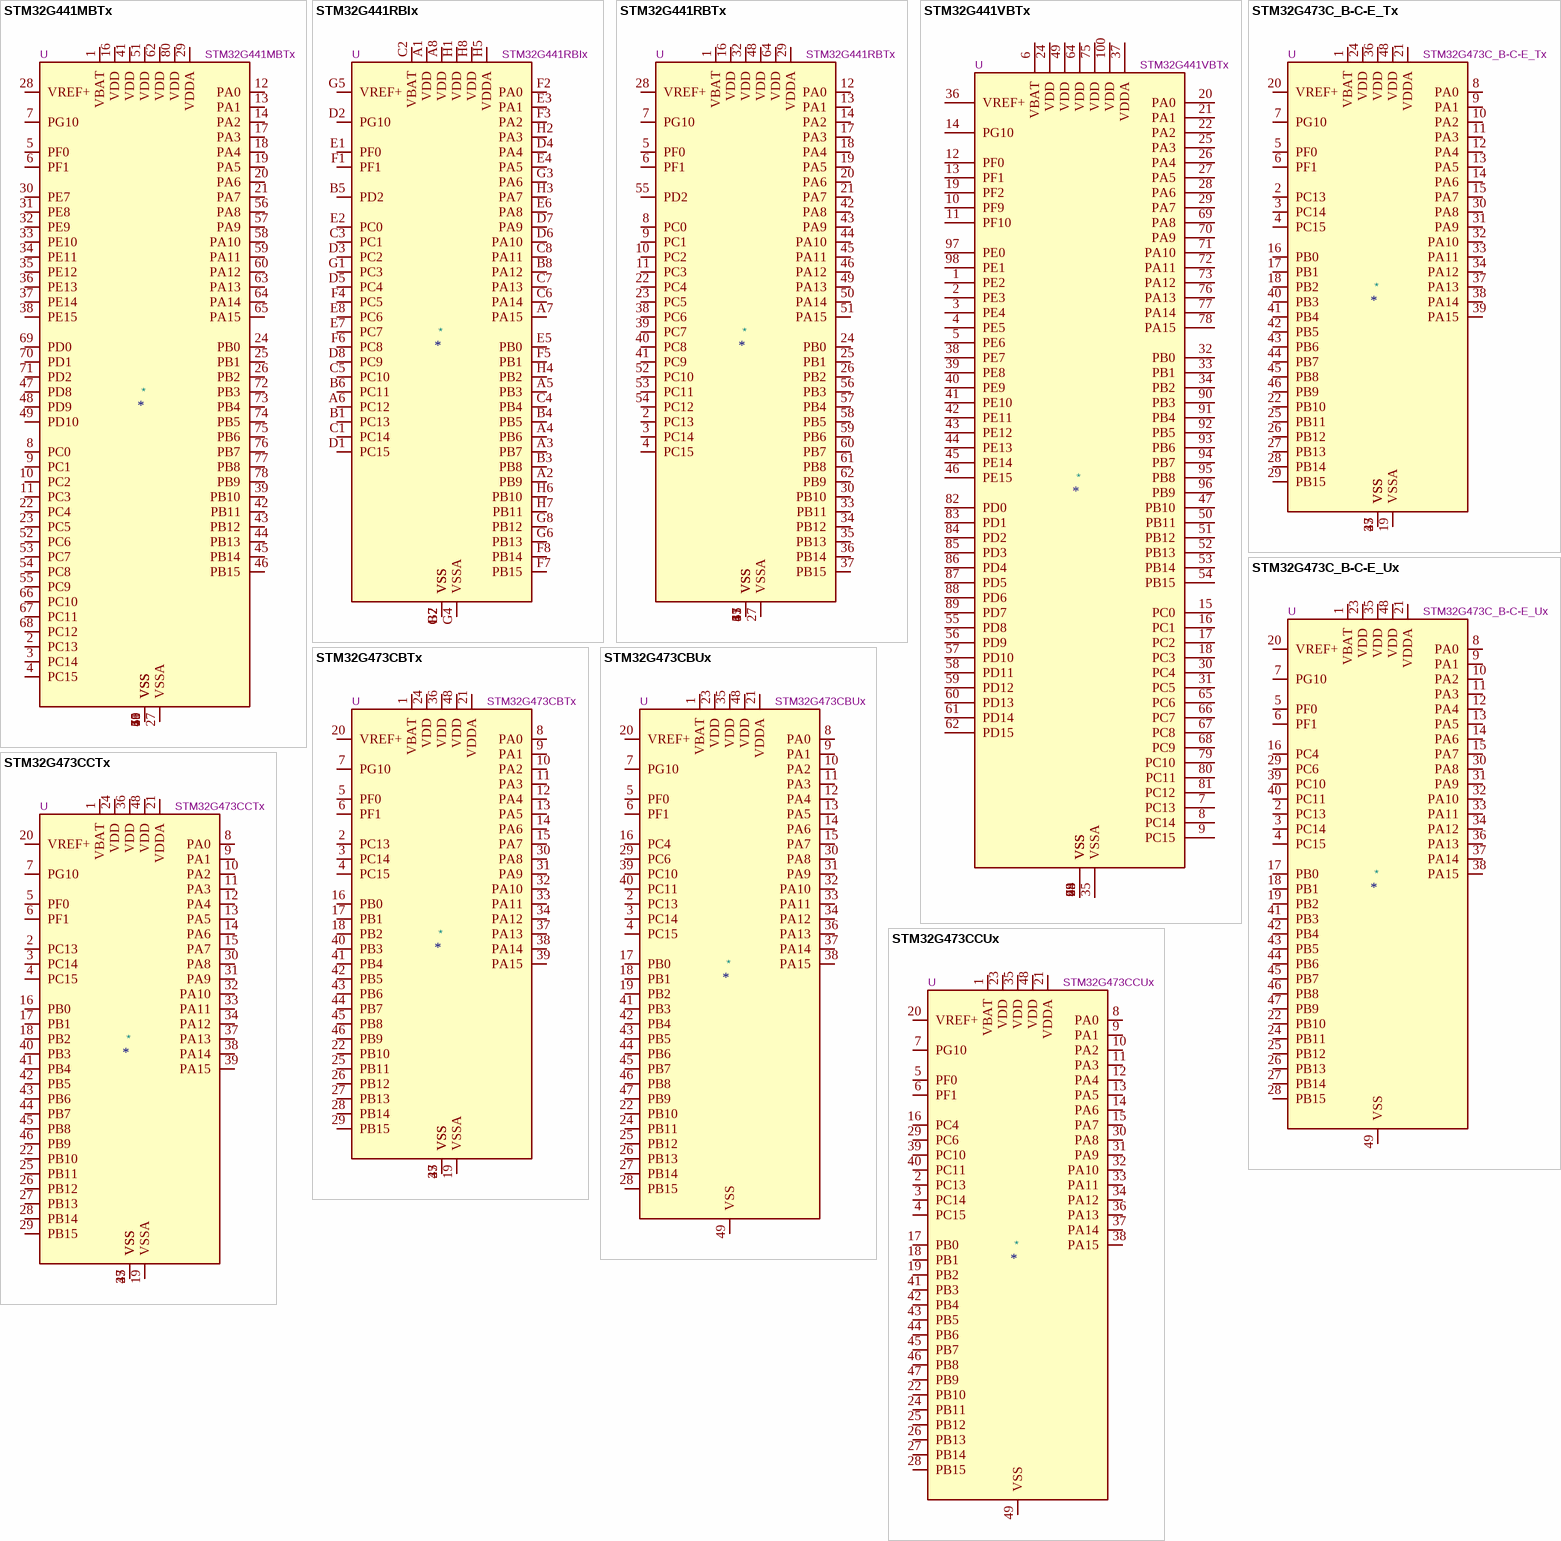
[diagram p5: symbols STM32G441MBTx to STM32G473CCUx]

## STM32G441MBTx
designator *  value STM32G441MBTx  Reference: U
STMicroelectronics Arm Cortex-M4 MCU, 128KB flash, 32KB RAM, 170 MHz, 1.71-3.6V, 66 GPIO, LQFP80; ki_keywords: Arm Cortex-M4 STM32G4 STM32G4x1; ki_fp_filters: LQFP*12x12mm*P0.5mm*; Footprint: Package_QFP:LQFP-80_12x12mm_P0.5mm; Datasheet: https://www.st.com/resource/en/datasheet/stm32g441mb.pdf; Description_: STMicroelectronics Arm Cortex-M4 MCU, 128KB flash, 32KB RAM, 170 MHz, 1.71-3.6V, 66 GPIO, LQFP80
pins: 1 VBAT, 2 PC13, 3 PC14, 4 PC15, 5 PF0, 6 PF1, 7 PG10, 8 PC0, 9 PC1, 10 PC2, 11 PC3, 12 PA0, 13 PA1, 14 PA2, 15 VSS, 16 VDD, 17 PA3, 18 PA4, 19 PA5, 20 PA6, 21 PA7, 22 PC4, 23 PC5, 24 PB0, 25 PB1, 26 PB2, 27 VSSA, 28 VREF+, 29 VDDA, 30 PE7, 31 PE8, 32 PE9, 33 PE10, 34 PE11, 35 PE12, 36 PE13, 37 PE14, 38 PE15, 39 PB10, 40 VSS, 41 VDD, 42 PB11, 43 PB12, 44 PB13, 45 PB14, 46 PB15, 47 PD8, 48 PD9, 49 PD10, 50 VSS, 51 VDD, 52 PC6, 53 PC7, 54 PC8, 55 PC9, 56 PA8, 57 PA9, 58 PA10, 59 PA11, 60 PA12, 61 VSS, 62 VDD, 63 PA13, 64 PA14, 65 PA15, 66 PC10, 67 PC11, 68 PC12, 69 PD0, 70 PD1, 71 PD2, 72 PB3, 73 PB4, 74 PB5, 75 PB6, 76 PB7, 77 PB8, 78 PB9, 79 VSS, 80 VDD